# Altium integrated library Xilinx Virtex-II Pro.IntLib: 140 symbols (part 7 of 77)
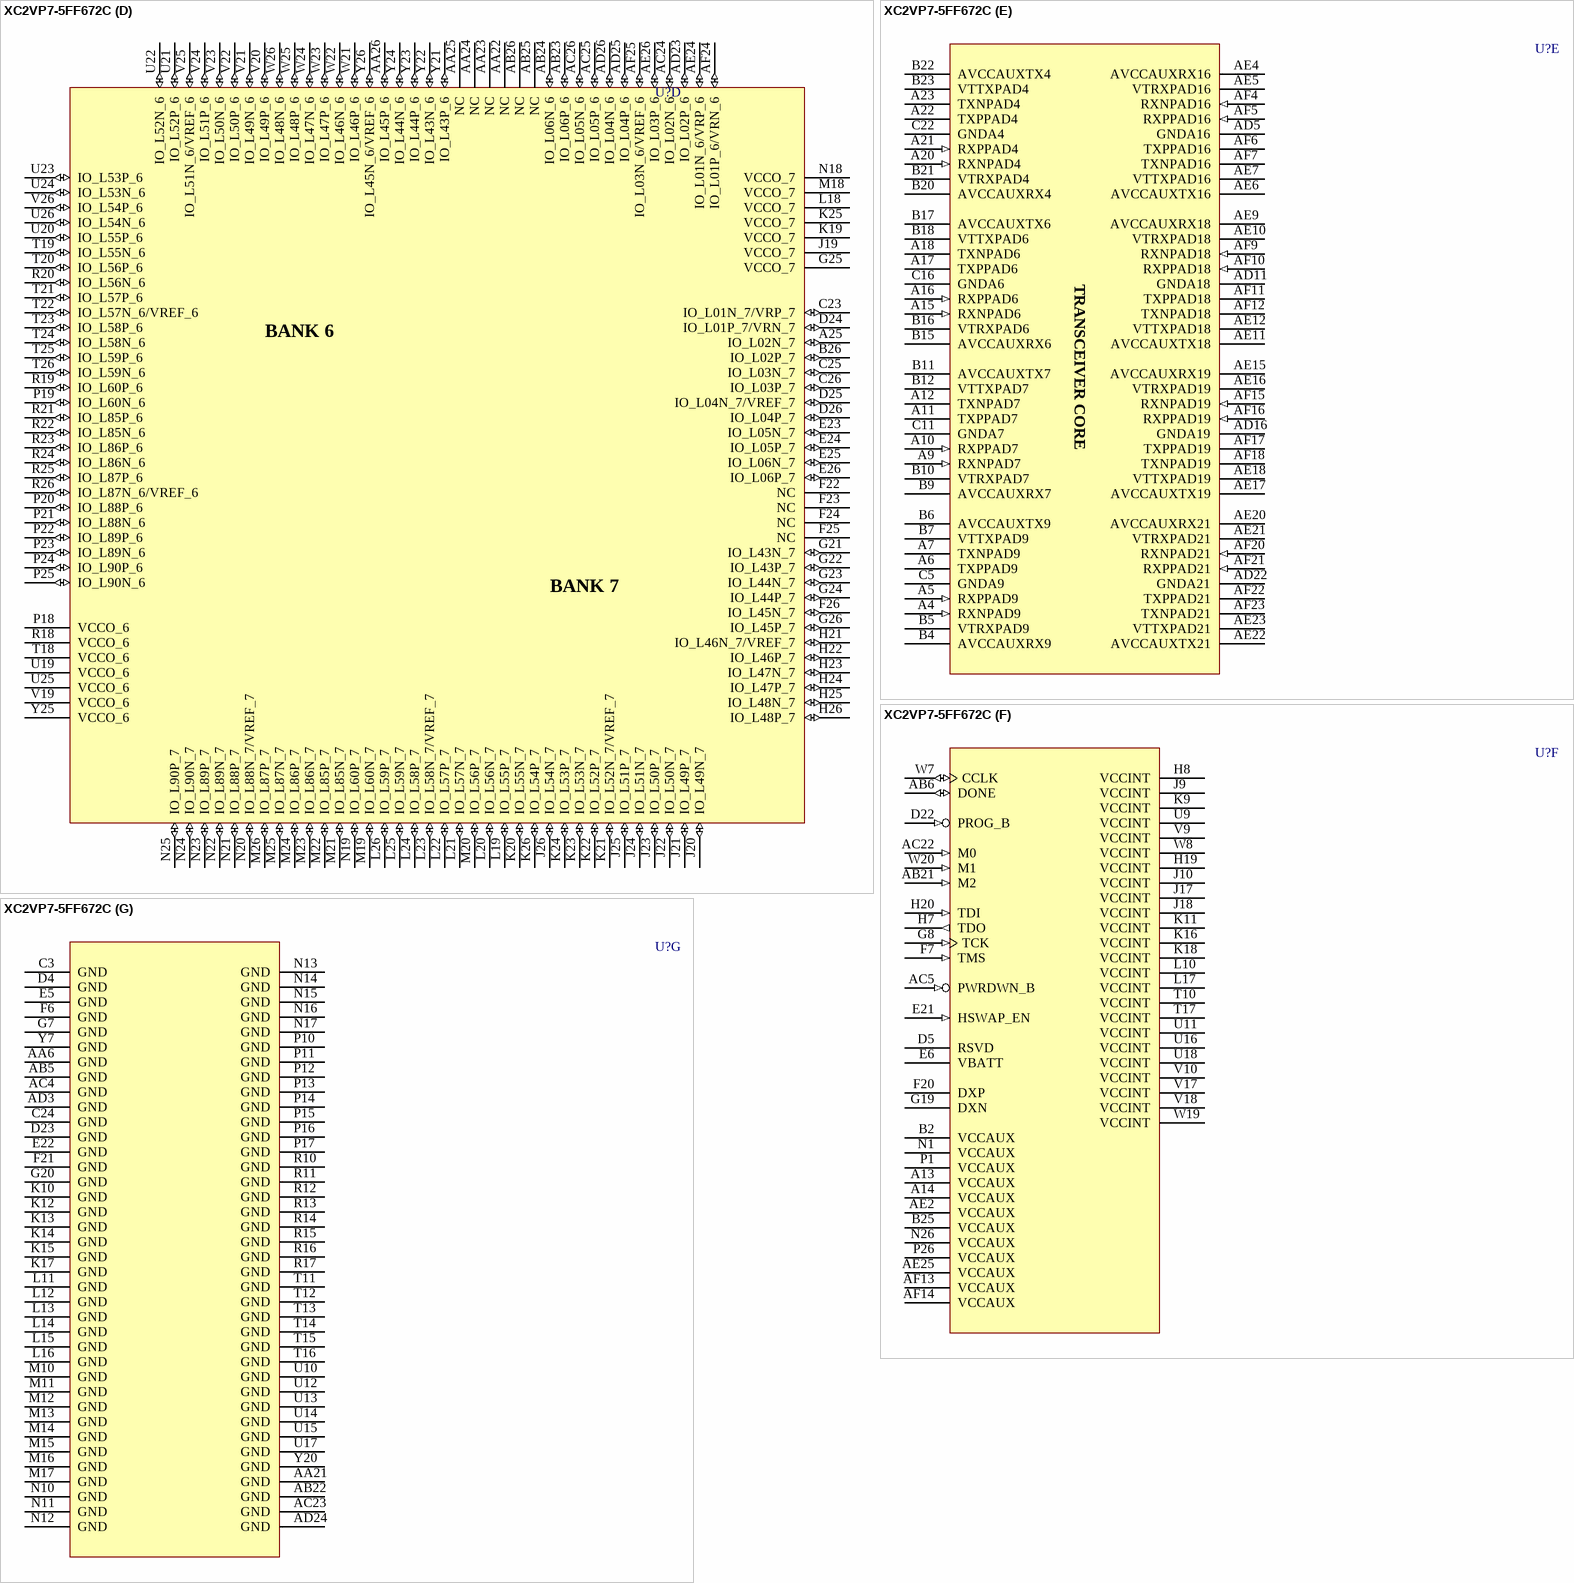
[diagram p405: symbol XC2VP7-5FF672C]

## XC2VP7-5FF672C
designator U?
Virtex-II Pro Platform FPGA, 672-Ball FFBGA, Speed Grade 5, 396 User I/Os, Commercial Grade; ManufacturerRecommends: Solder pad diameter 0.48mm SMD; PackageDocument: ver1.0, Oct-2002; User_I/Os: 396; Published: 17-Jul-2002; LatestRevisionDate: 16-Apr-2003; LatestRevisionNote: Minor layout changes, TXN/TXP Pins changed from 'Output' to 'HiZ'.  'PROG_B' pin types changed from IO to Input.; DatasheetDocument: 22-Apr-2004; PackageReference: FF672; Publisher: Altium Limited; Code_JEDEC: MS-034-AAL-1
footprint FF672 (672-Ball Flip-Chip Fine Pitch Ball Grid Array (FF672))
3D model XC2VP7-FF672 (672-Ball Flip-Chip Fine Pitch Ball Grid Array (FF672))
signal-integrity model XC2VP7_FF672 (Virtex-II Pro)
part A pins: A3 IO_L01N_1/VRP_1 (io), A8 IO_L08N_1 (io), A19 IO_L08P_0 (io), A24 IO_L01P_0/VRN_0 (io), B3 IO_L01P_1/VRN_1 (io), B8 IO_L08P_1 (io), B13 IO_L75N_1/GCLK3P (io), B14 IO_L75P_0/GCLK4S (io), B19 IO_L08N_0 (io), B24 IO_L01N_0/VRP_0 (io), C6 IO_L02N_1 (io), C7 VCCO_1 (power), C8 IO_L07N_1 (io), C9 IO_L37N_1 (io), C10 VCCO_1 (power), C12 IO_L68N_1 (io), C13 IO_L75P_1/GCLK2S (io), C14 IO_L75N_0/GCLK5P (io), C15 IO_L68P_0 (io), C17 VCCO_0 (power), C18 IO_L37P_0 (io), C19 IO_L07P_0 (io), C20 VCCO_0 (power), C21 IO_L02P_0 (io), D6 IO_L02P_1 (io), D7 IO_L03N_1/VREF_1 (io), D8 IO_L07P_1 (io), D9 IO_L37P_1 (io), D10 IO_L43N_1 (io), D11 IO_L45N_1/VREF_1 (io), D12 IO_L68P_1 (io), D13 IO_L74N_1/GCLK1P (io), D14 IO_L74P_0/GCLK6S (io), D15 IO_L68N_0 (io), D16 IO_L45P_0/VREF_0 (io), D17 IO_L43P_0 (io), D18 IO_L37N_0 (io), D19 IO_L07N_0 (io), D20 IO_L03P_0/VREF_0 (io), D21 IO_L02N_0 (io), E7 IO_L03P_1 (io), E8 IO_L06P_1 (io), E9 IO_L06N_1 (io), E10 IO_L43P_1 (io), E11 IO_L45P_1 (io), E12 IO_L67N_1 (io), E13 IO_L74P_1/GCLK0S (io), E14 IO_L74N_0/GCLK7P (io), E15 IO_L67P_0 (io), E16 IO_L45N_0 (io), E17 IO_L43N_0 (io), E18 IO_L06P_0 (io), E19 IO_L06N_0 (io), E20 IO_L03N_0 (io), F8 IO_L05_1/No_Pair (io), F9 IO_L09N_1/VREF_1 (io), F10 IO_L39P_1 (io), F11 IO_L39N_1 (io), F12 IO_L67P_1 (io), F13 IO_L73N_1 (io), F14 IO_L73P_0 (io), F15 IO_L67N_0 (io), F16 IO_L39P_0 (io), F17 IO_L39N_0 (io), F18 IO_L09P_0/VREF_0 (io), F19 IO_L05_0/No_Pair (io), G9 IO_L09P_1 (io), G10 IO_L38P_1 (io), G11 IO_L44P_1 (io), G12 IO_L44N_1 (io), G13 IO_L73P_1 (io), G14 IO_L73N_0 (io), G15 IO_L44P_0 (io), G16 IO_L44N_0 (io), G17 IO_L38N_0 (io), G18 IO_L09N_0 (io), H9 VCCO_1 (power), H10 VCCO_1 (power), H11 IO_L38N_1 (io), H12 IO_L69P_1 (io), H13 IO_L69N_1/VREF_1 (io), H14 IO_L69P_0/VREF_0 (io), H15 IO_L69N_0 (io), H16 IO_L38P_0 (io), H17 VCCO_0 (power), H18 VCCO_0 (power), J11 VCCO_1 (power), J12 VCCO_1 (power), J13 VCCO_1 (power), J14 VCCO_0 (power), J15 VCCO_0 (power), J16 VCCO_0 (power)
part B pins: A2 IO_L02N_2 (io), AA1 IO_L45P_3 (io), AA2 NC, AA3 NC, AA4 NC, AA5 NC, AB1 NC, AB2 NC, AB3 IO_L06N_3 (io), AB4 IO_L06P_3 (io), AC1 IO_L05N_3 (io), AC2 IO_L05P_3 (io), AC3 IO_L02N_3 (io), AD1 IO_L04N_3 (io), AD2 IO_L04P_3 (io), AD4 IO_L02P_3 (io), AE1 IO_L03N_3/VREF_3 (io), AE3 IO_L01N_3/VRP_3 (io), AF2 IO_L03P_3 (io), AF3 IO_L01P_3/VRN_3 (io), B1 IO_L02P_2 (io), C1 IO_L03P_2 (io), C2 IO_L03N_2 (io), C4 IO_L01N_2/VRP_2 (io), D1 IO_L04P_2 (io), D2 IO_L04N_2/VREF_2 (io), D3 IO_L01P_2/VRN_2 (io), E1 IO_L06P_2 (io), E2 IO_L06N_2 (io), E3 IO_L05P_2 (io), E4 IO_L05N_2 (io), F1 IO_L45N_2 (io), F2 NC, F3 NC, F4 NC, F5 NC, G1 IO_L45P_2 (io), G2 VCCO_2 (power), G3 IO_L44P_2 (io), G4 IO_L44N_2 (io), G5 IO_L43P_2 (io), G6 IO_L43N_2 (io), H1 IO_L48P_2 (io), H2 IO_L48N_2 (io), H3 IO_L47P_2 (io), H4 IO_L47N_2 (io), H5 IO_L46P_2 (io), H6 IO_L46N_2/VREF_2 (io), J1 IO_L54N_2 (io), J2 IO_L51P_2 (io), J3 IO_L51N_2 (io), J4 IO_L50P_2 (io), J5 IO_L50N_2 (io), J6 IO_L49P_2 (io), J7 IO_L49N_2 (io), J8 VCCO_2 (power), K1 IO_L54P_2 (io), K2 VCCO_2 (power), K3 IO_L53P_2 (io), K4 IO_L53N_2 (io), K5 IO_L52P_2 (io), K6 IO_L52N_2/VREF_2 (io), K7 IO_L55N_2 (io), K8 VCCO_2 (power), L1 IO_L59P_2 (io), L2 IO_L59N_2 (io), L3 IO_L58P_2 (io), L4 IO_L58N_2/VREF_2 (io), L5 IO_L57P_2 (io), L6 IO_L57N_2 (io), L7 IO_L56N_2 (io), L8 IO_L55P_2 (io), L9 VCCO_2 (power), M1 IO_L87P_2 (io), M2 IO_L87N_2 (io), M3 IO_L86P_2 (io), M4 IO_L86N_2 (io), M5 IO_L85P_2 (io), M6 IO_L85N_2 (io), M7 IO_L56P_2 (io), M8 IO_L60N_2 (io), M9 VCCO_2 (power), N2 IO_L90P_2 (io), N3 IO_L90N_2 (io), N4 IO_L89P_2 (io), N5 IO_L89N_2 (io), N6 IO_L88P_2 (io), N7 IO_L88N_2/VREF_2 (io), N8 IO_L60P_2 (io), N9 VCCO_2 (power), P2 IO_L90N_3 (io), P3 IO_L90P_3 (io), P4 IO_L89N_3 (io), P5 IO_L89P_3 (io), P6 IO_L88N_3 (io), P7 IO_L88P_3 (io), P8 IO_L60N_3 (io), P9 VCCO_3 (power), R1 IO_L87N_3/VREF_3 (io), R2 IO_L87P_3 (io), R3 IO_L86N_3 (io), R4 IO_L86P_3 (io), R5 IO_L85N_3 (io), R6 IO_L85P_3 (io), R7 IO_L56N_3 (io), R8 IO_L60P_3 (io), R9 VCCO_3 (power), T1 IO_L59N_3 (io), T2 IO_L59P_3 (io), T3 IO_L58N_3 (io), T4 IO_L58P_3 (io), T5 IO_L57N_3/VREF_3 (io), T6 IO_L57P_3 (io), T7 IO_L56P_3 (io), T8 IO_L55N_3 (io), T9 VCCO_3 (power), U1 IO_L54N_3 (io), U2 VCCO_3 (power), U3 IO_L53N_3 (io), U4 IO_L53P_3 (io), U5 IO_L52N_3 (io), U6 IO_L52P_3 (io), U7 IO_L55P_3 (io), U8 VCCO_3 (power), V1 IO_L54P_3 (io), V2 IO_L51N_3/VREF_3 (io), V3 IO_L51P_3 (io), V4 IO_L50N_3 (io), V5 IO_L50P_3 (io), V6 IO_L49N_3 (io), V7 IO_L49P_3 (io), V8 VCCO_3 (power), W1 IO_L48N_3 (io), W2 IO_L48P_3 (io), W3 IO_L47N_3 (io), W4 IO_L47P_3 (io), W5 IO_L46N_3 (io), W6 IO_L46P_3 (io), Y1 IO_L45N_3/VREF_3 (io), Y2 VCCO_3 (power), Y3 IO_L44N_3 (io), Y4 IO_L44P_3 (io), Y5 IO_L43N_3 (io), Y6 IO_L43P_3 (io)
part C pins: AA7 IO_L03N_4/D2 (io), AA8 IO_L03P_4/D3 (io), AA9 IO_L09P_4/VREF_4 (io), AA10 IO_L39N_4 (io), AA11 IO_L39P_4 (io), AA12 IO_L67N_4 (io), AA13 IO_L73P_4 (io), AA14 IO_L73N_5 (io), AA15 IO_L67P_5 (io), AA16 IO_L39N_5 (io), AA17 IO_L39P_5 (io), AA18 IO_L09N_5/VREF_5 (io), AA19 IO_L03N_5/D4 (io), AA20 IO_L03P_5/D5 (io), AB7 IO_L02N_4/D0 (io), AB8 IO_L06N_4/VRP_4 (io), AB9 IO_L06P_4/VRN_4 (io), AB10 IO_L43N_4 (io), AB11 IO_L45N_4 (io), AB12 IO_L67P_4 (io), AB13 IO_L74N_4/GCLK3S (io), AB14 IO_L74P_5/GCLK4P (io), AB15 IO_L67N_5 (io), AB16 IO_L45P_5 (io), AB17 IO_L43P_5 (io), AB18 IO_L06N_5/VRP_5 (io), AB19 IO_L06P_5/VRN_5 (io), AB20 IO_L02P_5/D7 (io), AC6 IO_L01N_4/DOUT (io), AC7 IO_L02P_4/D1 (io), AC8 IO_L07N_4 (io), AC9 IO_L37N_4 (io), AC10 IO_L43P_4 (io), AC11 IO_L45P_4/VREF_4 (io), AC12 IO_L68N_4 (io), AC13 IO_L74P_4/GCLK2P (io), AC14 IO_L74N_5/GCLK5S (io), AC15 IO_L68P_5 (io), AC16 IO_L45N_5/VREF_5 (io), AC17 IO_L43N_5 (io), AC18 IO_L37P_5 (io), AC19 IO_L07P_5 (io), AC20 IO_L02N_5/D6 (io), AC21 IO_L01P_5/CS_B (io), AD6 IO_L01P_4/INIT_B (io), AD7 VCCO_4 (power), AD8 IO_L07P_4/VREF_4 (io), AD9 IO_L37P_4 (io), AD10 VCCO_4 (power), AD12 IO_L68P_4 (io), AD13 IO_L75N_4/GCLK1S (io), AD14 IO_L75P_5/GCLK6P (io), AD15 IO_L68N_5 (io), AD17 VCCO_5 (power), AD18 IO_L37N_5 (io), AD19 IO_L07N_5/VREF_5 (io), AD20 VCCO_5 (power), AD21 IO_L01N_5/RDWR_B (io), AE8 IO_L08N_4 (io), AE13 IO_L75P_4/GCLK0P (io), AE14 IO_L75N_5/GCLK7S (io), AE19 IO_L08P_5 (io), AF8 IO_L08P_4 (io), AF19 IO_L08N_5 (io), V11 VCCO_4 (power), V12 VCCO_4 (power), V13 VCCO_4 (power), V14 VCCO_5 (power), V15 VCCO_5 (power), V16 VCCO_5 (power), W9 VCCO_4 (power), W10 VCCO_4 (power), W11 IO_L38P_4 (io), W12 IO_L69N_4 (io), W13 IO_L69P_4/VREF_4 (io), W14 IO_L69N_5/VREF_5 (io), W15 IO_L69P_5 (io), W16 IO_L38N_5 (io), W17 VCCO_5 (power), W18 VCCO_5 (power), Y8 IO_L05_4/No_Pair (io), Y9 IO_L09N_4 (io), Y10 IO_L38N_4 (io), Y11 IO_L44N_4 (io), Y12 IO_L44P_4 (io), Y13 IO_L73N_4 (io), Y14 IO_L73P_5 (io), Y15 IO_L44N_5 (io), Y16 IO_L44P_5 (io), Y17 IO_L38P_5 (io), Y18 IO_L09P_5 (io), Y19 IO_L05_5/No_Pair (io)
part D pins: A25 IO_L02N_7 (io), AA22 NC, AA23 NC, AA24 NC, AA25 NC, AA26 IO_L45P_6 (io), AB23 IO_L06P_6 (io), AB24 IO_L06N_6 (io), AB25 NC, AB26 NC, AC24 IO_L02N_6 (io), AC25 IO_L05P_6 (io), AC26 IO_L05N_6 (io), AD23 IO_L02P_6 (io), AD25 IO_L04P_6 (io), AD26 IO_L04N_6 (io), AE24 IO_L01N_6/VRP_6 (io), AE26 IO_L03P_6 (io), AF24 IO_L01P_6/VRN_6 (io), AF25 IO_L03N_6/VREF_6 (io), B26 IO_L02P_7 (io), C23 IO_L01N_7/VRP_7 (io), C25 IO_L03N_7 (io), C26 IO_L03P_7 (io), D24 IO_L01P_7/VRN_7 (io), D25 IO_L04N_7/VREF_7 (io), D26 IO_L04P_7 (io), E23 IO_L05N_7 (io), E24 IO_L05P_7 (io), E25 IO_L06N_7 (io), E26 IO_L06P_7 (io), F22 NC, F23 NC, F24 NC, F25 NC, F26 IO_L45N_7 (io), G21 IO_L43N_7 (io), G22 IO_L43P_7 (io), G23 IO_L44N_7 (io), G24 IO_L44P_7 (io), G25 VCCO_7 (power), G26 IO_L45P_7 (io), H21 IO_L46N_7/VREF_7 (io), H22 IO_L46P_7 (io), H23 IO_L47N_7 (io), H24 IO_L47P_7 (io), H25 IO_L48N_7 (io), H26 IO_L48P_7 (io), J19 VCCO_7 (power), J20 IO_L49N_7 (io), J21 IO_L49P_7 (io), J22 IO_L50N_7 (io), J23 IO_L50P_7 (io), J24 IO_L51N_7 (io), J25 IO_L51P_7 (io), J26 IO_L54N_7 (io), K19 VCCO_7 (power), K20 IO_L55N_7 (io), K21 IO_L52N_7/VREF_7 (io), K22 IO_L52P_7 (io), K23 IO_L53N_7 (io), K24 IO_L53P_7 (io), K25 VCCO_7 (power), K26 IO_L54P_7 (io), L18 VCCO_7 (power), L19 IO_L55P_7 (io), L20 IO_L56N_7 (io), L21 IO_L57N_7 (io), L22 IO_L57P_7 (io), L23 IO_L58N_7/VREF_7 (io), L24 IO_L58P_7 (io), L25 IO_L59N_7 (io), L26 IO_L59P_7 (io), M18 VCCO_7 (power), M19 IO_L60N_7 (io), M20 IO_L56P_7 (io), M21 IO_L85N_7 (io), M22 IO_L85P_7 (io), M23 IO_L86N_7 (io), M24 IO_L86P_7 (io), M25 IO_L87N_7 (io), M26 IO_L87P_7 (io), N18 VCCO_7 (power), N19 IO_L60P_7 (io), N20 IO_L88N_7/VREF_7 (io), N21 IO_L88P_7 (io), N22 IO_L89N_7 (io), N23 IO_L89P_7 (io), N24 IO_L90N_7 (io), N25 IO_L90P_7 (io), P18 VCCO_6 (power), P19 IO_L60N_6 (io), P20 IO_L88P_6 (io), P21 IO_L88N_6 (io), P22 IO_L89P_6 (io), P23 IO_L89N_6 (io), P24 IO_L90P_6 (io), P25 IO_L90N_6 (io), R18 VCCO_6 (power), R19 IO_L60P_6 (io), R20 IO_L56N_6 (io), R21 IO_L85P_6 (io), R22 IO_L85N_6 (io), R23 IO_L86P_6 (io), R24 IO_L86N_6 (io), R25 IO_L87P_6 (io), R26 IO_L87N_6/VREF_6 (io), T18 VCCO_6 (power), T19 IO_L55N_6 (io), T20 IO_L56P_6 (io), T21 IO_L57P_6 (io), T22 IO_L57N_6/VREF_6 (io), T23 IO_L58P_6 (io), T24 IO_L58N_6 (io), T25 IO_L59P_6 (io), T26 IO_L59N_6 (io), U19 VCCO_6 (power), U20 IO_L55P_6 (io), U21 IO_L52P_6 (io), U22 IO_L52N_6 (io), U23 IO_L53P_6 (io), U24 IO_L53N_6 (io), U25 VCCO_6 (power), U26 IO_L54N_6 (io), V19 VCCO_6 (power), V20 IO_L49P_6 (io), V21 IO_L49N_6 (io), V22 IO_L50P_6 (io), V23 IO_L50N_6 (io), V24 IO_L51P_6 (io), V25 IO_L51N_6/VREF_6 (io), V26 IO_L54P_6 (io), W21 IO_L46P_6 (io), W22 IO_L46N_6 (io), W23 IO_L47P_6 (io), W24 IO_L47N_6 (io), W25 IO_L48P_6 (io), W26 IO_L48N_6 (io), Y21 IO_L43P_6 (io), Y22 IO_L43N_6 (io), Y23 IO_L44P_6 (io), Y24 IO_L44N_6 (io), Y25 VCCO_6 (power), Y26 IO_L45N_6/VREF_6 (io)
part E pins: A4 RXNPAD9 (in), A5 RXPPAD9 (in), A6 TXPPAD9 (hiz), A7 TXNPAD9 (hiz), A9 RXNPAD7 (in), A10 RXPPAD7 (in), A11 TXPPAD7 (hiz), A12 TXNPAD7 (hiz), A15 RXNPAD6 (in), A16 RXPPAD6 (in), A17 TXPPAD6 (hiz), A18 TXNPAD6 (hiz), A20 RXNPAD4 (in), A21 RXPPAD4 (in), A22 TXPPAD4 (hiz), A23 TXNPAD4 (hiz), AD5 GNDA16 (power), AD11 GNDA18 (power), AD16 GNDA19 (power), AD22 GNDA21 (power), AE4 AVCCAUXRX16 (power), AE5 VTRXPAD16 (power), AE6 AVCCAUXTX16 (power), AE7 VTTXPAD16 (power), AE9 AVCCAUXRX18 (power), AE10 VTRXPAD18 (power), AE11 AVCCAUXTX18 (power), AE12 VTTXPAD18 (power), AE15 AVCCAUXRX19 (power), AE16 VTRXPAD19 (power), AE17 AVCCAUXTX19 (power), AE18 VTTXPAD19 (power), AE20 AVCCAUXRX21 (power), AE21 VTRXPAD21 (power), AE22 AVCCAUXTX21 (power), AE23 VTTXPAD21 (power), AF4 RXNPAD16 (in), AF5 RXPPAD16 (in), AF6 TXPPAD16 (hiz), AF7 TXNPAD16 (hiz), AF9 RXNPAD18 (in), AF10 RXPPAD18 (in), AF11 TXPPAD18 (hiz), AF12 TXNPAD18 (hiz), AF15 RXNPAD19 (in), AF16 RXPPAD19 (in), AF17 TXPPAD19 (hiz), AF18 TXNPAD19 (hiz), AF20 RXNPAD21 (in), AF21 RXPPAD21 (in), AF22 TXPPAD21 (hiz), AF23 TXNPAD21 (hiz), B4 AVCCAUXRX9 (power), B5 VTRXPAD9 (power), B6 AVCCAUXTX9 (power), B7 VTTXPAD9 (power), B9 AVCCAUXRX7 (power), B10 VTRXPAD7 (power), B11 AVCCAUXTX7 (power), B12 VTTXPAD7 (power), B15 AVCCAUXRX6 (power), B16 VTRXPAD6 (power), B17 AVCCAUXTX6 (power), B18 VTTXPAD6 (power), B20 AVCCAUXRX4 (power), B21 VTRXPAD4 (power), B22 AVCCAUXTX4 (power), B23 VTTXPAD4 (power), C5 GNDA9 (power), C11 GNDA7 (power), C16 GNDA6 (power), C22 GNDA4 (power)
part F pins: A13 VCCAUX (power), A14 VCCAUX (power), AB6 DONE (io), AB21 M2 (in), AC5 PWRDWN_B (in), AC22 M0 (in), AE2 VCCAUX (power), AE25 VCCAUX (power), AF13 VCCAUX (power), AF14 VCCAUX (power), B2 VCCAUX (power), B25 VCCAUX (power), D5 RSVD, D22 PROG_B (in), E6 VBATT (power), E21 HSWAP_EN (in), F7 TMS (in), F20 DXP, G8 TCK (in), G19 DXN, H7 TDO (out), H8 VCCINT (power), H19 VCCINT (power), H20 TDI (in), J9 VCCINT (power), J10 VCCINT (power), J17 VCCINT (power), J18 VCCINT (power), K9 VCCINT (power), K11 VCCINT (power), K16 VCCINT (power), K18 VCCINT (power), L10 VCCINT (power), L17 VCCINT (power), N1 VCCAUX (power), N26 VCCAUX (power), P1 VCCAUX (power), P26 VCCAUX (power), T10 VCCINT (power), T17 VCCINT (power), U9 VCCINT (power), U11 VCCINT (power), U16 VCCINT (power), U18 VCCINT (power), V9 VCCINT (power), V10 VCCINT (power), V17 VCCINT (power), V18 VCCINT (power), W7 CCLK (io), W8 VCCINT (power), W19 VCCINT (power), W20 M1 (in)
part G pins: AA6 GND (power), AA21 GND (power), AB5 GND (power), AB22 GND (power), AC4 GND (power), AC23 GND (power), AD3 GND (power), AD24 GND (power), C3 GND (power), C24 GND (power), D4 GND (power), D23 GND (power), E5 GND (power), E22 GND (power), F6 GND (power), F21 GND (power), G7 GND (power), G20 GND (power), K10 GND (power), K12 GND (power), K13 GND (power), K14 GND (power), K15 GND (power), K17 GND (power), L11 GND (power), L12 GND (power), L13 GND (power), L14 GND (power), L15 GND (power), L16 GND (power), M10 GND (power), M11 GND (power), M12 GND (power), M13 GND (power), M14 GND (power), M15 GND (power), M16 GND (power), M17 GND (power), N10 GND (power), N11 GND (power), N12 GND (power), N13 GND (power), N14 GND (power), N15 GND (power), N16 GND (power), N17 GND (power), P10 GND (power), P11 GND (power), P12 GND (power), P13 GND (power), P14 GND (power), P15 GND (power), P16 GND (power), P17 GND (power), R10 GND (power), R11 GND (power), R12 GND (power), R13 GND (power), R14 GND (power), R15 GND (power), R16 GND (power), R17 GND (power), T11 GND (power), T12 GND (power), T13 GND (power), T14 GND (power), T15 GND (power), T16 GND (power), U10 GND (power), U12 GND (power), U13 GND (power), U14 GND (power), U15 GND (power), U17 GND (power), Y7 GND (power), Y20 GND (power)
part A text: BANK 0; BANK 1
part B text: BANK 2; BANK 3
part C text: BANK 4; BANK 5
part D text: BANK 6; BANK 7
part E text: TRANSCEIVER CORE

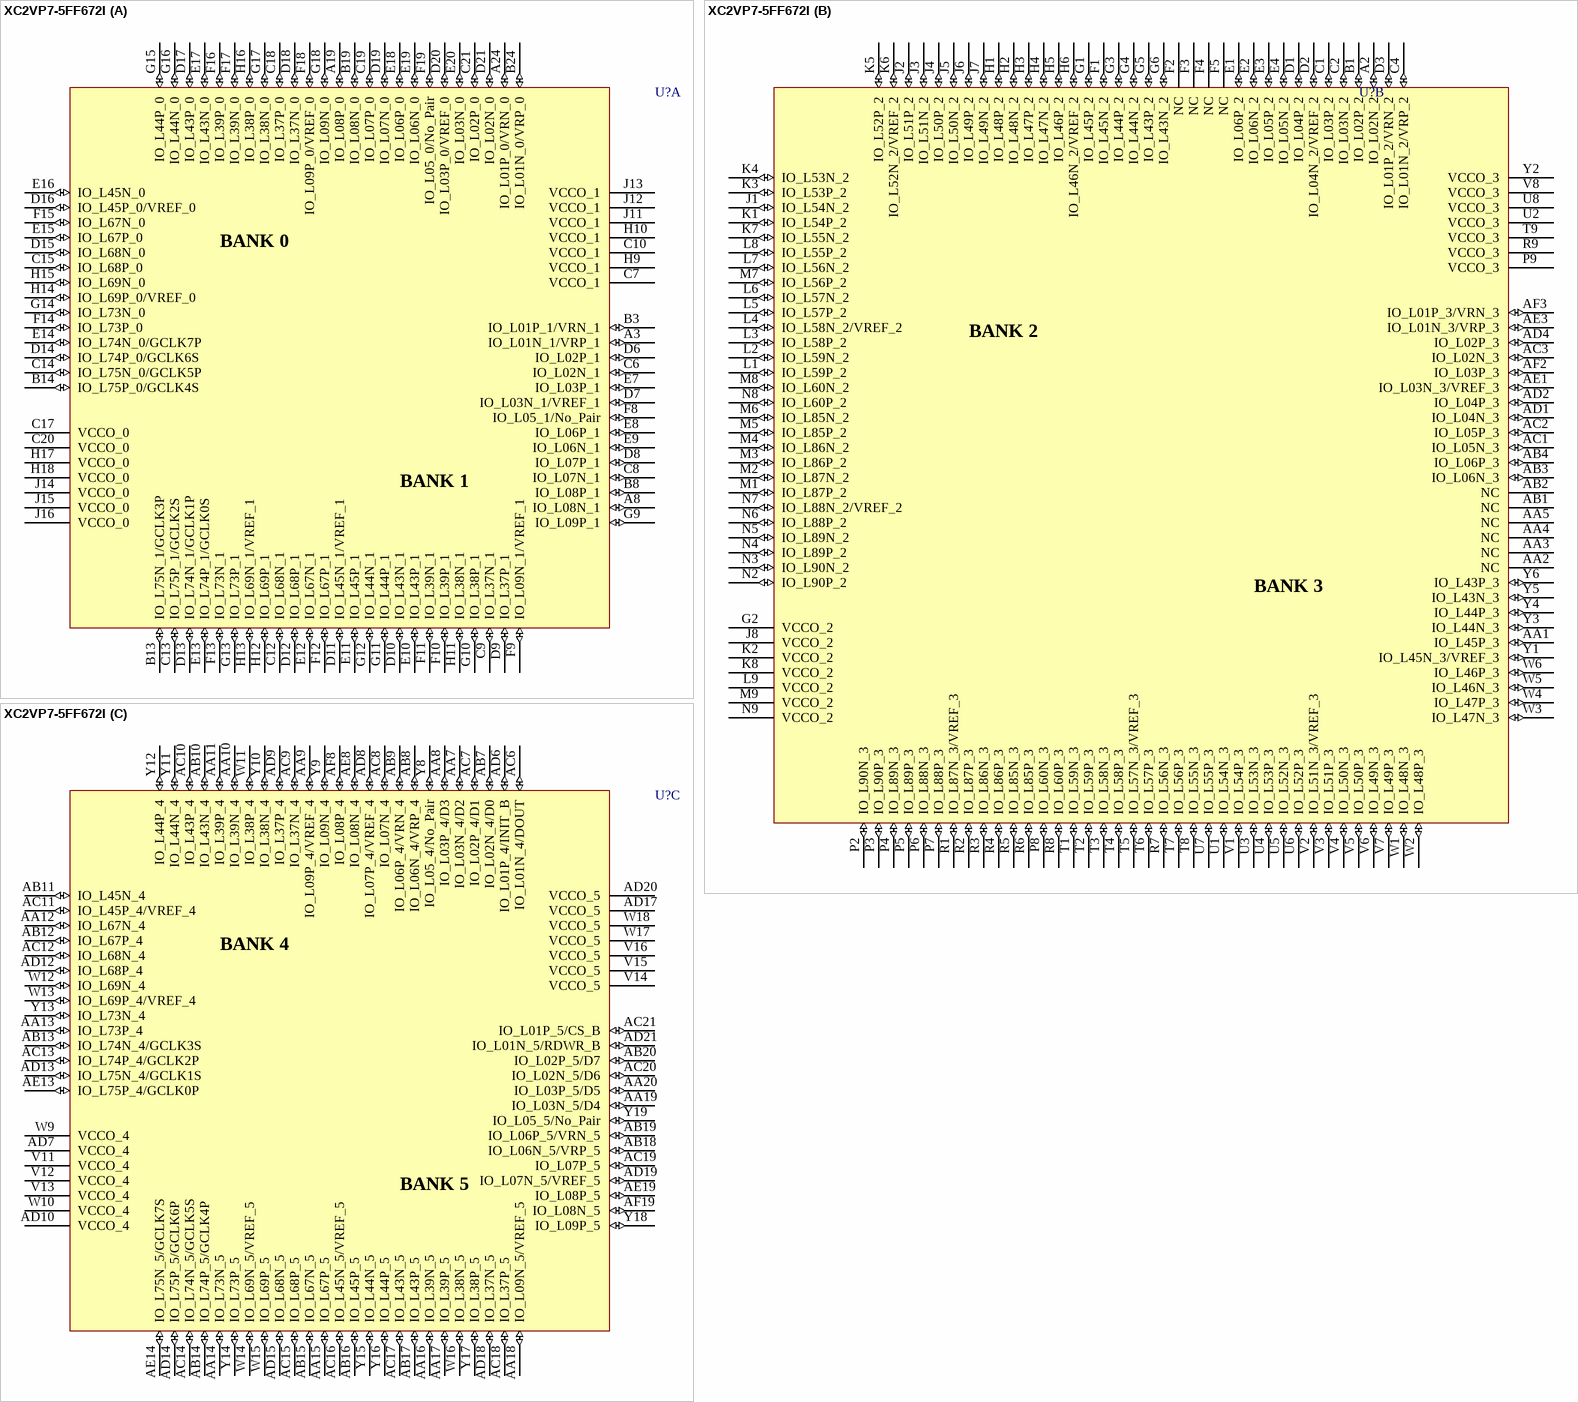
[diagram p62: symbol XC2VP7-5FF672I]

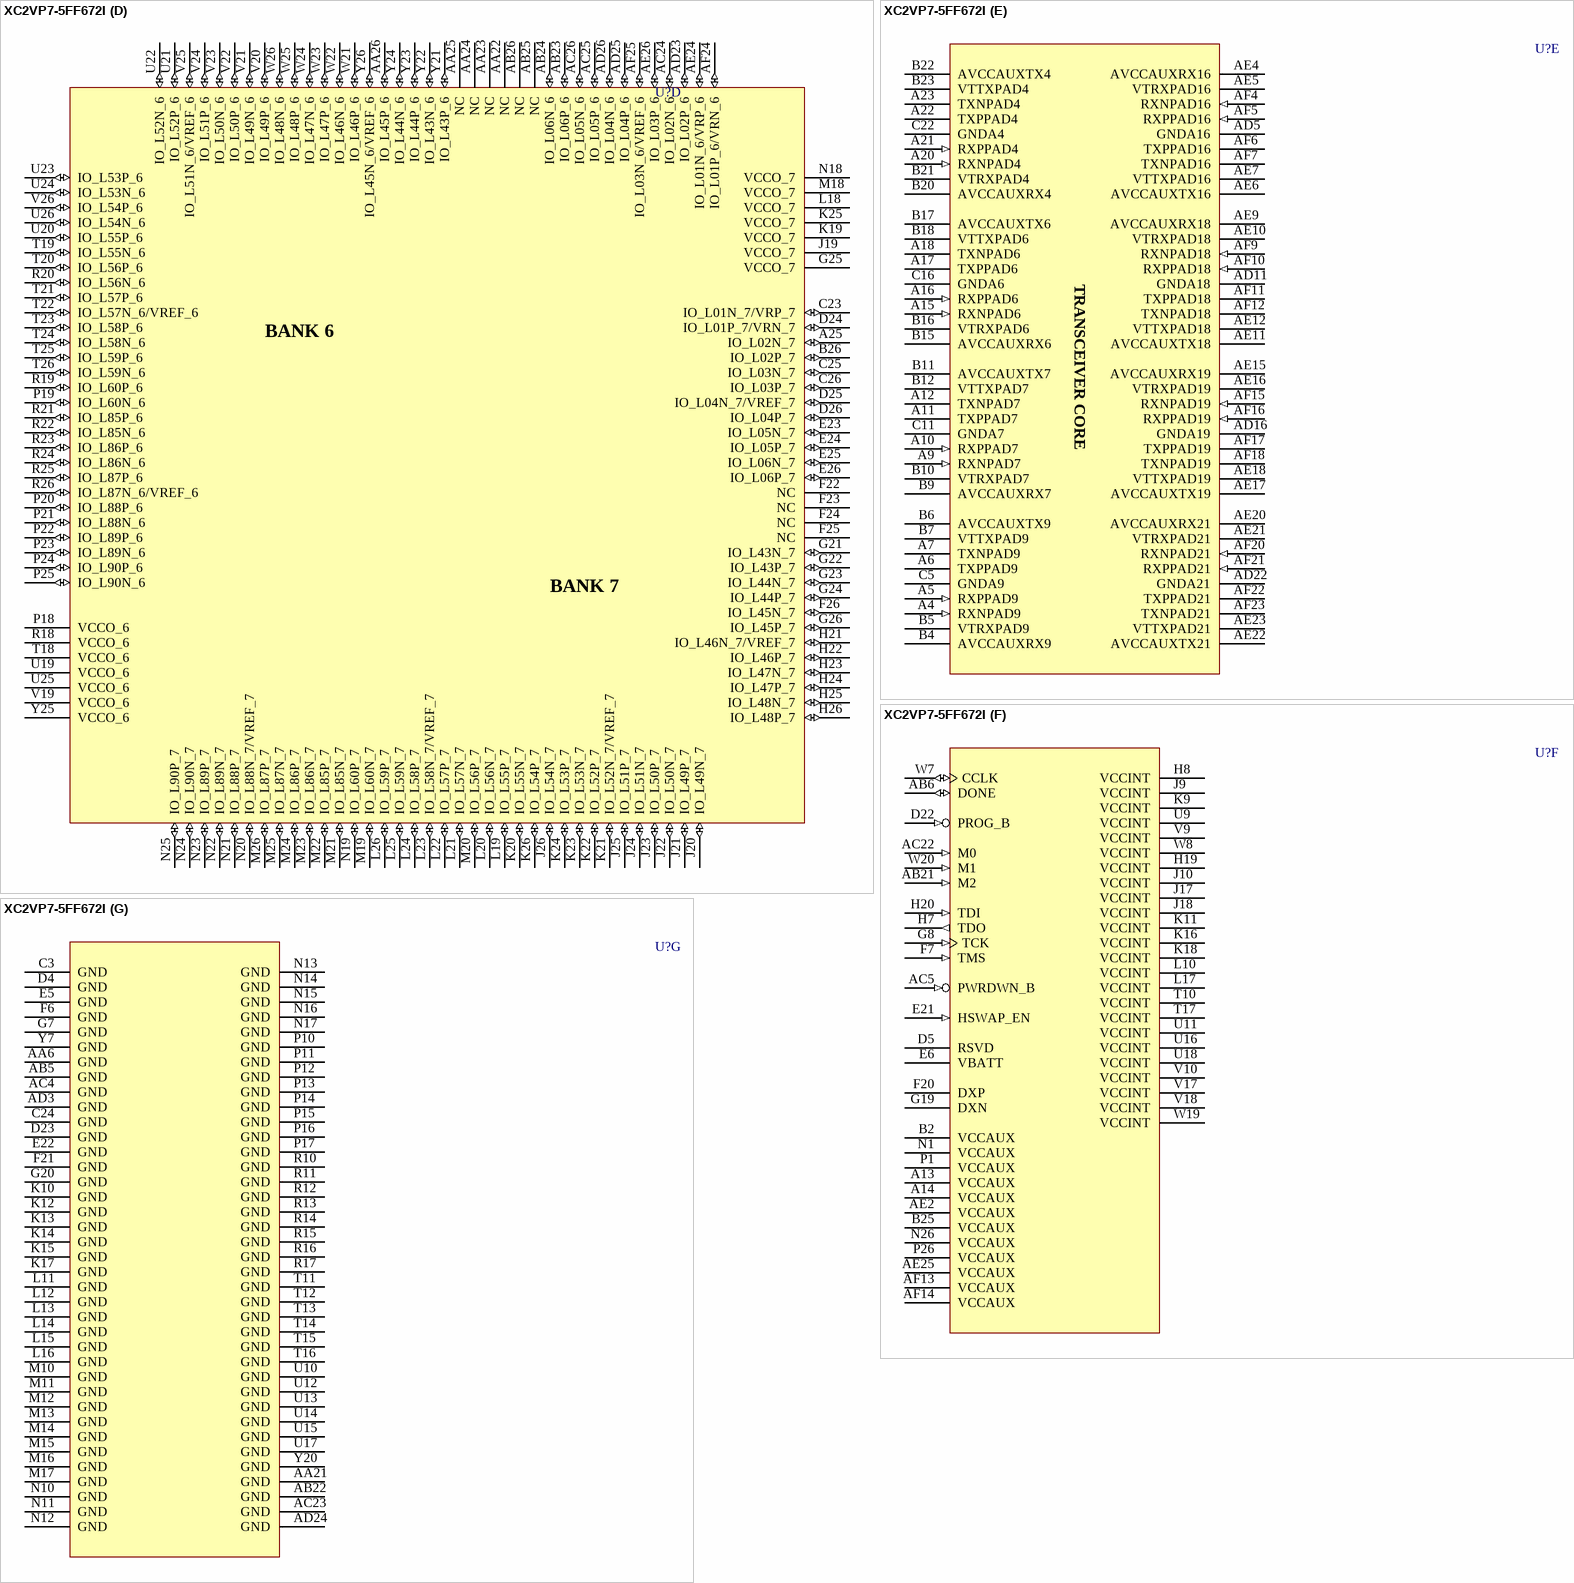
[diagram p63: symbol XC2VP7-5FF672I]

## XC2VP7-5FF672I
designator U?
Virtex-II Pro Platform FPGA, 672-Ball FFBGA, Speed Grade 5, 396 User I/Os, Industrial Grade; ManufacturerRecommends: Solder pad diameter 0.48mm SMD; PackageDocument: ver1.0, Oct-2002; User_I/Os: 396; Published: 17-Jul-2002; LatestRevisionDate: 16-Apr-2003; LatestRevisionNote: Minor layout changes, TXN/TXP Pins changed from 'Output' to 'HiZ'.  'PROG_B' pin types changed from IO to Input.; DatasheetDocument: 22-Apr-2004; PackageReference: FF672; Publisher: Altium Limited; Code_JEDEC: MS-034-AAL-1
footprint FF672 (672-Ball Flip-Chip Fine Pitch Ball Grid Array (FF672))
3D model XC2VP7-FF672 (672-Ball Flip-Chip Fine Pitch Ball Grid Array (FF672))
signal-integrity model XC2VP7_FF672 (Virtex-II Pro)
part A pins: A3 IO_L01N_1/VRP_1 (io), A8 IO_L08N_1 (io), A19 IO_L08P_0 (io), A24 IO_L01P_0/VRN_0 (io), B3 IO_L01P_1/VRN_1 (io), B8 IO_L08P_1 (io), B13 IO_L75N_1/GCLK3P (io), B14 IO_L75P_0/GCLK4S (io), B19 IO_L08N_0 (io), B24 IO_L01N_0/VRP_0 (io), C6 IO_L02N_1 (io), C7 VCCO_1 (power), C8 IO_L07N_1 (io), C9 IO_L37N_1 (io), C10 VCCO_1 (power), C12 IO_L68N_1 (io), C13 IO_L75P_1/GCLK2S (io), C14 IO_L75N_0/GCLK5P (io), C15 IO_L68P_0 (io), C17 VCCO_0 (power), C18 IO_L37P_0 (io), C19 IO_L07P_0 (io), C20 VCCO_0 (power), C21 IO_L02P_0 (io), D6 IO_L02P_1 (io), D7 IO_L03N_1/VREF_1 (io), D8 IO_L07P_1 (io), D9 IO_L37P_1 (io), D10 IO_L43N_1 (io), D11 IO_L45N_1/VREF_1 (io), D12 IO_L68P_1 (io), D13 IO_L74N_1/GCLK1P (io), D14 IO_L74P_0/GCLK6S (io), D15 IO_L68N_0 (io), D16 IO_L45P_0/VREF_0 (io), D17 IO_L43P_0 (io), D18 IO_L37N_0 (io), D19 IO_L07N_0 (io), D20 IO_L03P_0/VREF_0 (io), D21 IO_L02N_0 (io), E7 IO_L03P_1 (io), E8 IO_L06P_1 (io), E9 IO_L06N_1 (io), E10 IO_L43P_1 (io), E11 IO_L45P_1 (io), E12 IO_L67N_1 (io), E13 IO_L74P_1/GCLK0S (io), E14 IO_L74N_0/GCLK7P (io), E15 IO_L67P_0 (io), E16 IO_L45N_0 (io), E17 IO_L43N_0 (io), E18 IO_L06P_0 (io), E19 IO_L06N_0 (io), E20 IO_L03N_0 (io), F8 IO_L05_1/No_Pair (io), F9 IO_L09N_1/VREF_1 (io), F10 IO_L39P_1 (io), F11 IO_L39N_1 (io), F12 IO_L67P_1 (io), F13 IO_L73N_1 (io), F14 IO_L73P_0 (io), F15 IO_L67N_0 (io), F16 IO_L39P_0 (io), F17 IO_L39N_0 (io), F18 IO_L09P_0/VREF_0 (io), F19 IO_L05_0/No_Pair (io), G9 IO_L09P_1 (io), G10 IO_L38P_1 (io), G11 IO_L44P_1 (io), G12 IO_L44N_1 (io), G13 IO_L73P_1 (io), G14 IO_L73N_0 (io), G15 IO_L44P_0 (io), G16 IO_L44N_0 (io), G17 IO_L38N_0 (io), G18 IO_L09N_0 (io), H9 VCCO_1 (power), H10 VCCO_1 (power), H11 IO_L38N_1 (io), H12 IO_L69P_1 (io), H13 IO_L69N_1/VREF_1 (io), H14 IO_L69P_0/VREF_0 (io), H15 IO_L69N_0 (io), H16 IO_L38P_0 (io), H17 VCCO_0 (power), H18 VCCO_0 (power), J11 VCCO_1 (power), J12 VCCO_1 (power), J13 VCCO_1 (power), J14 VCCO_0 (power), J15 VCCO_0 (power), J16 VCCO_0 (power)
part B pins: A2 IO_L02N_2 (io), AA1 IO_L45P_3 (io), AA2 NC, AA3 NC, AA4 NC, AA5 NC, AB1 NC, AB2 NC, AB3 IO_L06N_3 (io), AB4 IO_L06P_3 (io), AC1 IO_L05N_3 (io), AC2 IO_L05P_3 (io), AC3 IO_L02N_3 (io), AD1 IO_L04N_3 (io), AD2 IO_L04P_3 (io), AD4 IO_L02P_3 (io), AE1 IO_L03N_3/VREF_3 (io), AE3 IO_L01N_3/VRP_3 (io), AF2 IO_L03P_3 (io), AF3 IO_L01P_3/VRN_3 (io), B1 IO_L02P_2 (io), C1 IO_L03P_2 (io), C2 IO_L03N_2 (io), C4 IO_L01N_2/VRP_2 (io), D1 IO_L04P_2 (io), D2 IO_L04N_2/VREF_2 (io), D3 IO_L01P_2/VRN_2 (io), E1 IO_L06P_2 (io), E2 IO_L06N_2 (io), E3 IO_L05P_2 (io), E4 IO_L05N_2 (io), F1 IO_L45N_2 (io), F2 NC, F3 NC, F4 NC, F5 NC, G1 IO_L45P_2 (io), G2 VCCO_2 (power), G3 IO_L44P_2 (io), G4 IO_L44N_2 (io), G5 IO_L43P_2 (io), G6 IO_L43N_2 (io), H1 IO_L48P_2 (io), H2 IO_L48N_2 (io), H3 IO_L47P_2 (io), H4 IO_L47N_2 (io), H5 IO_L46P_2 (io), H6 IO_L46N_2/VREF_2 (io), J1 IO_L54N_2 (io), J2 IO_L51P_2 (io), J3 IO_L51N_2 (io), J4 IO_L50P_2 (io), J5 IO_L50N_2 (io), J6 IO_L49P_2 (io), J7 IO_L49N_2 (io), J8 VCCO_2 (power), K1 IO_L54P_2 (io), K2 VCCO_2 (power), K3 IO_L53P_2 (io), K4 IO_L53N_2 (io), K5 IO_L52P_2 (io), K6 IO_L52N_2/VREF_2 (io), K7 IO_L55N_2 (io), K8 VCCO_2 (power), L1 IO_L59P_2 (io), L2 IO_L59N_2 (io), L3 IO_L58P_2 (io), L4 IO_L58N_2/VREF_2 (io), L5 IO_L57P_2 (io), L6 IO_L57N_2 (io), L7 IO_L56N_2 (io), L8 IO_L55P_2 (io), L9 VCCO_2 (power), M1 IO_L87P_2 (io), M2 IO_L87N_2 (io), M3 IO_L86P_2 (io), M4 IO_L86N_2 (io), M5 IO_L85P_2 (io), M6 IO_L85N_2 (io), M7 IO_L56P_2 (io), M8 IO_L60N_2 (io), M9 VCCO_2 (power), N2 IO_L90P_2 (io), N3 IO_L90N_2 (io), N4 IO_L89P_2 (io), N5 IO_L89N_2 (io), N6 IO_L88P_2 (io), N7 IO_L88N_2/VREF_2 (io), N8 IO_L60P_2 (io), N9 VCCO_2 (power), P2 IO_L90N_3 (io), P3 IO_L90P_3 (io), P4 IO_L89N_3 (io), P5 IO_L89P_3 (io), P6 IO_L88N_3 (io), P7 IO_L88P_3 (io), P8 IO_L60N_3 (io), P9 VCCO_3 (power), R1 IO_L87N_3/VREF_3 (io), R2 IO_L87P_3 (io), R3 IO_L86N_3 (io), R4 IO_L86P_3 (io), R5 IO_L85N_3 (io), R6 IO_L85P_3 (io), R7 IO_L56N_3 (io), R8 IO_L60P_3 (io), R9 VCCO_3 (power), T1 IO_L59N_3 (io), T2 IO_L59P_3 (io), T3 IO_L58N_3 (io), T4 IO_L58P_3 (io), T5 IO_L57N_3/VREF_3 (io), T6 IO_L57P_3 (io), T7 IO_L56P_3 (io), T8 IO_L55N_3 (io), T9 VCCO_3 (power), U1 IO_L54N_3 (io), U2 VCCO_3 (power), U3 IO_L53N_3 (io), U4 IO_L53P_3 (io), U5 IO_L52N_3 (io), U6 IO_L52P_3 (io), U7 IO_L55P_3 (io), U8 VCCO_3 (power), V1 IO_L54P_3 (io), V2 IO_L51N_3/VREF_3 (io), V3 IO_L51P_3 (io), V4 IO_L50N_3 (io), V5 IO_L50P_3 (io), V6 IO_L49N_3 (io), V7 IO_L49P_3 (io), V8 VCCO_3 (power), W1 IO_L48N_3 (io), W2 IO_L48P_3 (io), W3 IO_L47N_3 (io), W4 IO_L47P_3 (io), W5 IO_L46N_3 (io), W6 IO_L46P_3 (io), Y1 IO_L45N_3/VREF_3 (io), Y2 VCCO_3 (power), Y3 IO_L44N_3 (io), Y4 IO_L44P_3 (io), Y5 IO_L43N_3 (io), Y6 IO_L43P_3 (io)
part C pins: AA7 IO_L03N_4/D2 (io), AA8 IO_L03P_4/D3 (io), AA9 IO_L09P_4/VREF_4 (io), AA10 IO_L39N_4 (io), AA11 IO_L39P_4 (io), AA12 IO_L67N_4 (io), AA13 IO_L73P_4 (io), AA14 IO_L73N_5 (io), AA15 IO_L67P_5 (io), AA16 IO_L39N_5 (io), AA17 IO_L39P_5 (io), AA18 IO_L09N_5/VREF_5 (io), AA19 IO_L03N_5/D4 (io), AA20 IO_L03P_5/D5 (io), AB7 IO_L02N_4/D0 (io), AB8 IO_L06N_4/VRP_4 (io), AB9 IO_L06P_4/VRN_4 (io), AB10 IO_L43N_4 (io), AB11 IO_L45N_4 (io), AB12 IO_L67P_4 (io), AB13 IO_L74N_4/GCLK3S (io), AB14 IO_L74P_5/GCLK4P (io), AB15 IO_L67N_5 (io), AB16 IO_L45P_5 (io), AB17 IO_L43P_5 (io), AB18 IO_L06N_5/VRP_5 (io), AB19 IO_L06P_5/VRN_5 (io), AB20 IO_L02P_5/D7 (io), AC6 IO_L01N_4/DOUT (io), AC7 IO_L02P_4/D1 (io), AC8 IO_L07N_4 (io), AC9 IO_L37N_4 (io), AC10 IO_L43P_4 (io), AC11 IO_L45P_4/VREF_4 (io), AC12 IO_L68N_4 (io), AC13 IO_L74P_4/GCLK2P (io), AC14 IO_L74N_5/GCLK5S (io), AC15 IO_L68P_5 (io), AC16 IO_L45N_5/VREF_5 (io), AC17 IO_L43N_5 (io), AC18 IO_L37P_5 (io), AC19 IO_L07P_5 (io), AC20 IO_L02N_5/D6 (io), AC21 IO_L01P_5/CS_B (io), AD6 IO_L01P_4/INIT_B (io), AD7 VCCO_4 (power), AD8 IO_L07P_4/VREF_4 (io), AD9 IO_L37P_4 (io), AD10 VCCO_4 (power), AD12 IO_L68P_4 (io), AD13 IO_L75N_4/GCLK1S (io), AD14 IO_L75P_5/GCLK6P (io), AD15 IO_L68N_5 (io), AD17 VCCO_5 (power), AD18 IO_L37N_5 (io), AD19 IO_L07N_5/VREF_5 (io), AD20 VCCO_5 (power), AD21 IO_L01N_5/RDWR_B (io), AE8 IO_L08N_4 (io), AE13 IO_L75P_4/GCLK0P (io), AE14 IO_L75N_5/GCLK7S (io), AE19 IO_L08P_5 (io), AF8 IO_L08P_4 (io), AF19 IO_L08N_5 (io), V11 VCCO_4 (power), V12 VCCO_4 (power), V13 VCCO_4 (power), V14 VCCO_5 (power), V15 VCCO_5 (power), V16 VCCO_5 (power), W9 VCCO_4 (power), W10 VCCO_4 (power), W11 IO_L38P_4 (io), W12 IO_L69N_4 (io), W13 IO_L69P_4/VREF_4 (io), W14 IO_L69N_5/VREF_5 (io), W15 IO_L69P_5 (io), W16 IO_L38N_5 (io), W17 VCCO_5 (power), W18 VCCO_5 (power), Y8 IO_L05_4/No_Pair (io), Y9 IO_L09N_4 (io), Y10 IO_L38N_4 (io), Y11 IO_L44N_4 (io), Y12 IO_L44P_4 (io), Y13 IO_L73N_4 (io), Y14 IO_L73P_5 (io), Y15 IO_L44N_5 (io), Y16 IO_L44P_5 (io), Y17 IO_L38P_5 (io), Y18 IO_L09P_5 (io), Y19 IO_L05_5/No_Pair (io)
part D pins: A25 IO_L02N_7 (io), AA22 NC, AA23 NC, AA24 NC, AA25 NC, AA26 IO_L45P_6 (io), AB23 IO_L06P_6 (io), AB24 IO_L06N_6 (io), AB25 NC, AB26 NC, AC24 IO_L02N_6 (io), AC25 IO_L05P_6 (io), AC26 IO_L05N_6 (io), AD23 IO_L02P_6 (io), AD25 IO_L04P_6 (io), AD26 IO_L04N_6 (io), AE24 IO_L01N_6/VRP_6 (io), AE26 IO_L03P_6 (io), AF24 IO_L01P_6/VRN_6 (io), AF25 IO_L03N_6/VREF_6 (io), B26 IO_L02P_7 (io), C23 IO_L01N_7/VRP_7 (io), C25 IO_L03N_7 (io), C26 IO_L03P_7 (io), D24 IO_L01P_7/VRN_7 (io), D25 IO_L04N_7/VREF_7 (io), D26 IO_L04P_7 (io), E23 IO_L05N_7 (io), E24 IO_L05P_7 (io), E25 IO_L06N_7 (io), E26 IO_L06P_7 (io), F22 NC, F23 NC, F24 NC, F25 NC, F26 IO_L45N_7 (io), G21 IO_L43N_7 (io), G22 IO_L43P_7 (io), G23 IO_L44N_7 (io), G24 IO_L44P_7 (io), G25 VCCO_7 (power), G26 IO_L45P_7 (io), H21 IO_L46N_7/VREF_7 (io), H22 IO_L46P_7 (io), H23 IO_L47N_7 (io), H24 IO_L47P_7 (io), H25 IO_L48N_7 (io), H26 IO_L48P_7 (io), J19 VCCO_7 (power), J20 IO_L49N_7 (io), J21 IO_L49P_7 (io), J22 IO_L50N_7 (io), J23 IO_L50P_7 (io), J24 IO_L51N_7 (io), J25 IO_L51P_7 (io), J26 IO_L54N_7 (io), K19 VCCO_7 (power), K20 IO_L55N_7 (io), K21 IO_L52N_7/VREF_7 (io), K22 IO_L52P_7 (io), K23 IO_L53N_7 (io), K24 IO_L53P_7 (io), K25 VCCO_7 (power), K26 IO_L54P_7 (io), L18 VCCO_7 (power), L19 IO_L55P_7 (io), L20 IO_L56N_7 (io), L21 IO_L57N_7 (io), L22 IO_L57P_7 (io), L23 IO_L58N_7/VREF_7 (io), L24 IO_L58P_7 (io), L25 IO_L59N_7 (io), L26 IO_L59P_7 (io), M18 VCCO_7 (power), M19 IO_L60N_7 (io), M20 IO_L56P_7 (io), M21 IO_L85N_7 (io), M22 IO_L85P_7 (io), M23 IO_L86N_7 (io), M24 IO_L86P_7 (io), M25 IO_L87N_7 (io), M26 IO_L87P_7 (io), N18 VCCO_7 (power), N19 IO_L60P_7 (io), N20 IO_L88N_7/VREF_7 (io), N21 IO_L88P_7 (io), N22 IO_L89N_7 (io), N23 IO_L89P_7 (io), N24 IO_L90N_7 (io), N25 IO_L90P_7 (io), P18 VCCO_6 (power), P19 IO_L60N_6 (io), P20 IO_L88P_6 (io), P21 IO_L88N_6 (io), P22 IO_L89P_6 (io), P23 IO_L89N_6 (io), P24 IO_L90P_6 (io), P25 IO_L90N_6 (io), R18 VCCO_6 (power), R19 IO_L60P_6 (io), R20 IO_L56N_6 (io), R21 IO_L85P_6 (io), R22 IO_L85N_6 (io), R23 IO_L86P_6 (io), R24 IO_L86N_6 (io), R25 IO_L87P_6 (io), R26 IO_L87N_6/VREF_6 (io), T18 VCCO_6 (power), T19 IO_L55N_6 (io), T20 IO_L56P_6 (io), T21 IO_L57P_6 (io), T22 IO_L57N_6/VREF_6 (io), T23 IO_L58P_6 (io), T24 IO_L58N_6 (io), T25 IO_L59P_6 (io), T26 IO_L59N_6 (io), U19 VCCO_6 (power), U20 IO_L55P_6 (io), U21 IO_L52P_6 (io), U22 IO_L52N_6 (io), U23 IO_L53P_6 (io), U24 IO_L53N_6 (io), U25 VCCO_6 (power), U26 IO_L54N_6 (io), V19 VCCO_6 (power), V20 IO_L49P_6 (io), V21 IO_L49N_6 (io), V22 IO_L50P_6 (io), V23 IO_L50N_6 (io), V24 IO_L51P_6 (io), V25 IO_L51N_6/VREF_6 (io), V26 IO_L54P_6 (io), W21 IO_L46P_6 (io), W22 IO_L46N_6 (io), W23 IO_L47P_6 (io), W24 IO_L47N_6 (io), W25 IO_L48P_6 (io), W26 IO_L48N_6 (io), Y21 IO_L43P_6 (io), Y22 IO_L43N_6 (io), Y23 IO_L44P_6 (io), Y24 IO_L44N_6 (io), Y25 VCCO_6 (power), Y26 IO_L45N_6/VREF_6 (io)
part E pins: A4 RXNPAD9 (in), A5 RXPPAD9 (in), A6 TXPPAD9 (hiz), A7 TXNPAD9 (hiz), A9 RXNPAD7 (in), A10 RXPPAD7 (in), A11 TXPPAD7 (hiz), A12 TXNPAD7 (hiz), A15 RXNPAD6 (in), A16 RXPPAD6 (in), A17 TXPPAD6 (hiz), A18 TXNPAD6 (hiz), A20 RXNPAD4 (in), A21 RXPPAD4 (in), A22 TXPPAD4 (hiz), A23 TXNPAD4 (hiz), AD5 GNDA16 (power), AD11 GNDA18 (power), AD16 GNDA19 (power), AD22 GNDA21 (power), AE4 AVCCAUXRX16 (power), AE5 VTRXPAD16 (power), AE6 AVCCAUXTX16 (power), AE7 VTTXPAD16 (power), AE9 AVCCAUXRX18 (power), AE10 VTRXPAD18 (power), AE11 AVCCAUXTX18 (power), AE12 VTTXPAD18 (power), AE15 AVCCAUXRX19 (power), AE16 VTRXPAD19 (power), AE17 AVCCAUXTX19 (power), AE18 VTTXPAD19 (power), AE20 AVCCAUXRX21 (power), AE21 VTRXPAD21 (power), AE22 AVCCAUXTX21 (power), AE23 VTTXPAD21 (power), AF4 RXNPAD16 (in), AF5 RXPPAD16 (in), AF6 TXPPAD16 (hiz), AF7 TXNPAD16 (hiz), AF9 RXNPAD18 (in), AF10 RXPPAD18 (in), AF11 TXPPAD18 (hiz), AF12 TXNPAD18 (hiz), AF15 RXNPAD19 (in), AF16 RXPPAD19 (in), AF17 TXPPAD19 (hiz), AF18 TXNPAD19 (hiz), AF20 RXNPAD21 (in), AF21 RXPPAD21 (in), AF22 TXPPAD21 (hiz), AF23 TXNPAD21 (hiz), B4 AVCCAUXRX9 (power), B5 VTRXPAD9 (power), B6 AVCCAUXTX9 (power), B7 VTTXPAD9 (power), B9 AVCCAUXRX7 (power), B10 VTRXPAD7 (power), B11 AVCCAUXTX7 (power), B12 VTTXPAD7 (power), B15 AVCCAUXRX6 (power), B16 VTRXPAD6 (power), B17 AVCCAUXTX6 (power), B18 VTTXPAD6 (power), B20 AVCCAUXRX4 (power), B21 VTRXPAD4 (power), B22 AVCCAUXTX4 (power), B23 VTTXPAD4 (power), C5 GNDA9 (power), C11 GNDA7 (power), C16 GNDA6 (power), C22 GNDA4 (power)
part F pins: A13 VCCAUX (power), A14 VCCAUX (power), AB6 DONE (io), AB21 M2 (in), AC5 PWRDWN_B (in), AC22 M0 (in), AE2 VCCAUX (power), AE25 VCCAUX (power), AF13 VCCAUX (power), AF14 VCCAUX (power), B2 VCCAUX (power), B25 VCCAUX (power), D5 RSVD, D22 PROG_B (in), E6 VBATT (power), E21 HSWAP_EN (in), F7 TMS (in), F20 DXP, G8 TCK (in), G19 DXN, H7 TDO (out), H8 VCCINT (power), H19 VCCINT (power), H20 TDI (in), J9 VCCINT (power), J10 VCCINT (power), J17 VCCINT (power), J18 VCCINT (power), K9 VCCINT (power), K11 VCCINT (power), K16 VCCINT (power), K18 VCCINT (power), L10 VCCINT (power), L17 VCCINT (power), N1 VCCAUX (power), N26 VCCAUX (power), P1 VCCAUX (power), P26 VCCAUX (power), T10 VCCINT (power), T17 VCCINT (power), U9 VCCINT (power), U11 VCCINT (power), U16 VCCINT (power), U18 VCCINT (power), V9 VCCINT (power), V10 VCCINT (power), V17 VCCINT (power), V18 VCCINT (power), W7 CCLK (io), W8 VCCINT (power), W19 VCCINT (power), W20 M1 (in)
part G pins: AA6 GND (power), AA21 GND (power), AB5 GND (power), AB22 GND (power), AC4 GND (power), AC23 GND (power), AD3 GND (power), AD24 GND (power), C3 GND (power), C24 GND (power), D4 GND (power), D23 GND (power), E5 GND (power), E22 GND (power), F6 GND (power), F21 GND (power), G7 GND (power), G20 GND (power), K10 GND (power), K12 GND (power), K13 GND (power), K14 GND (power), K15 GND (power), K17 GND (power), L11 GND (power), L12 GND (power), L13 GND (power), L14 GND (power), L15 GND (power), L16 GND (power), M10 GND (power), M11 GND (power), M12 GND (power), M13 GND (power), M14 GND (power), M15 GND (power), M16 GND (power), M17 GND (power), N10 GND (power), N11 GND (power), N12 GND (power), N13 GND (power), N14 GND (power), N15 GND (power), N16 GND (power), N17 GND (power), P10 GND (power), P11 GND (power), P12 GND (power), P13 GND (power), P14 GND (power), P15 GND (power), P16 GND (power), P17 GND (power), R10 GND (power), R11 GND (power), R12 GND (power), R13 GND (power), R14 GND (power), R15 GND (power), R16 GND (power), R17 GND (power), T11 GND (power), T12 GND (power), T13 GND (power), T14 GND (power), T15 GND (power), T16 GND (power), U10 GND (power), U12 GND (power), U13 GND (power), U14 GND (power), U15 GND (power), U17 GND (power), Y7 GND (power), Y20 GND (power)
part A text: BANK 0; BANK 1
part B text: BANK 2; BANK 3
part C text: BANK 4; BANK 5
part D text: BANK 6; BANK 7
part E text: TRANSCEIVER CORE

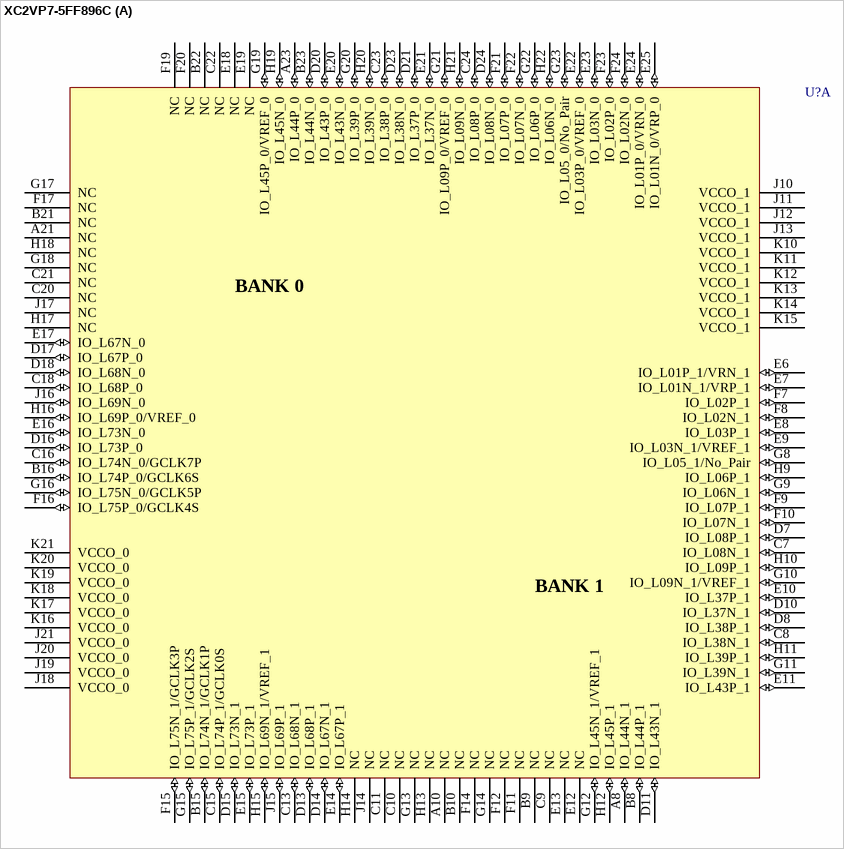
[diagram p64: symbol XC2VP7-5FF896C]

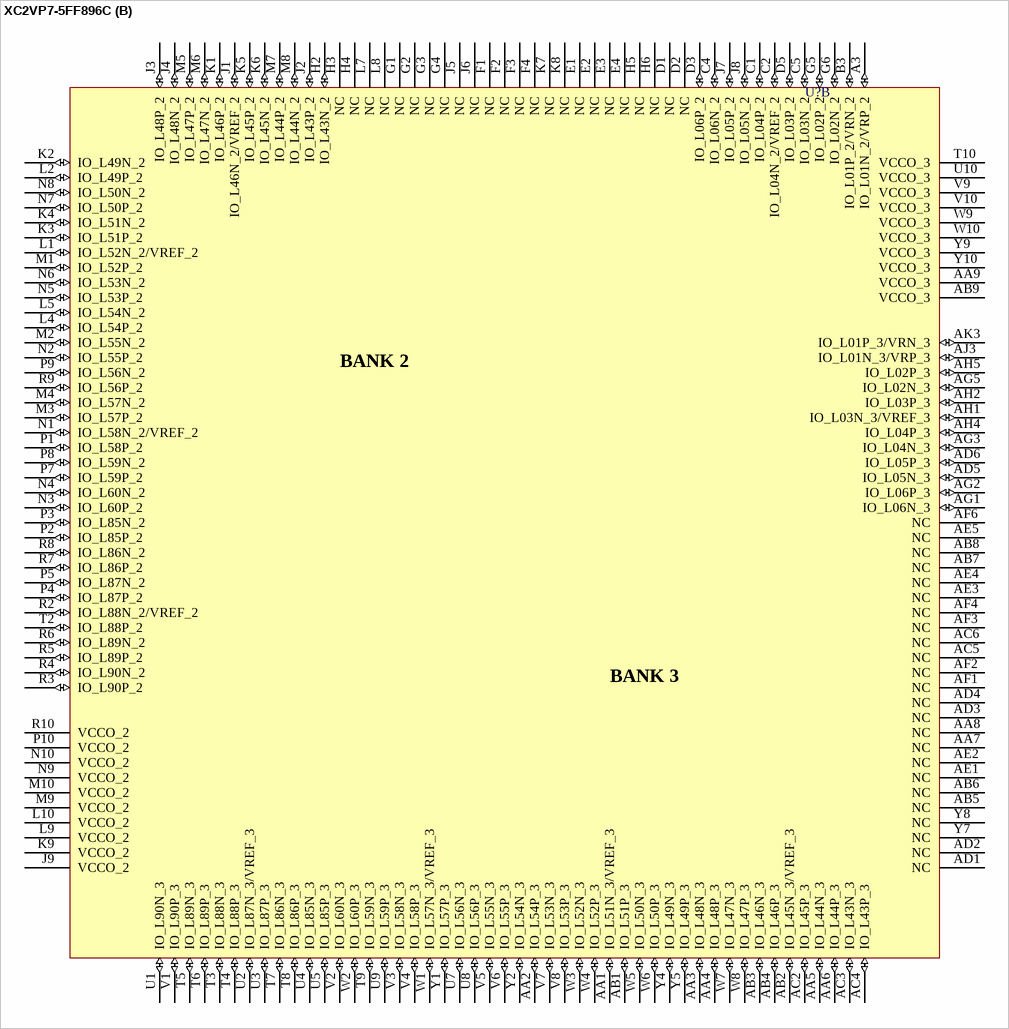
[diagram p65: symbol XC2VP7-5FF896C]

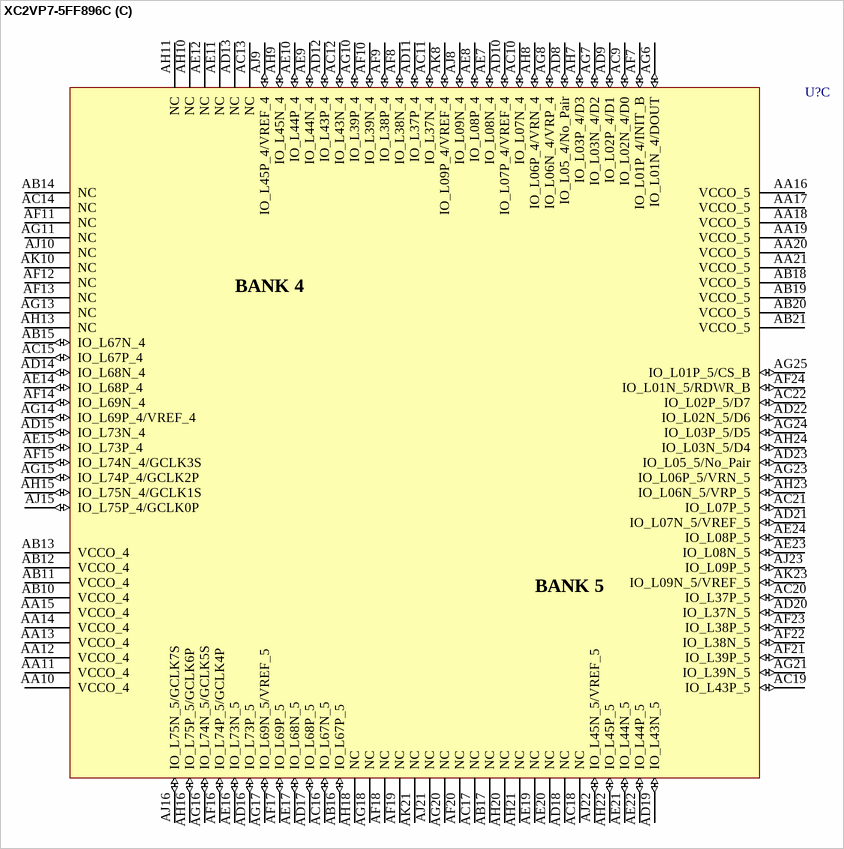
[diagram p66: symbol XC2VP7-5FF896C]

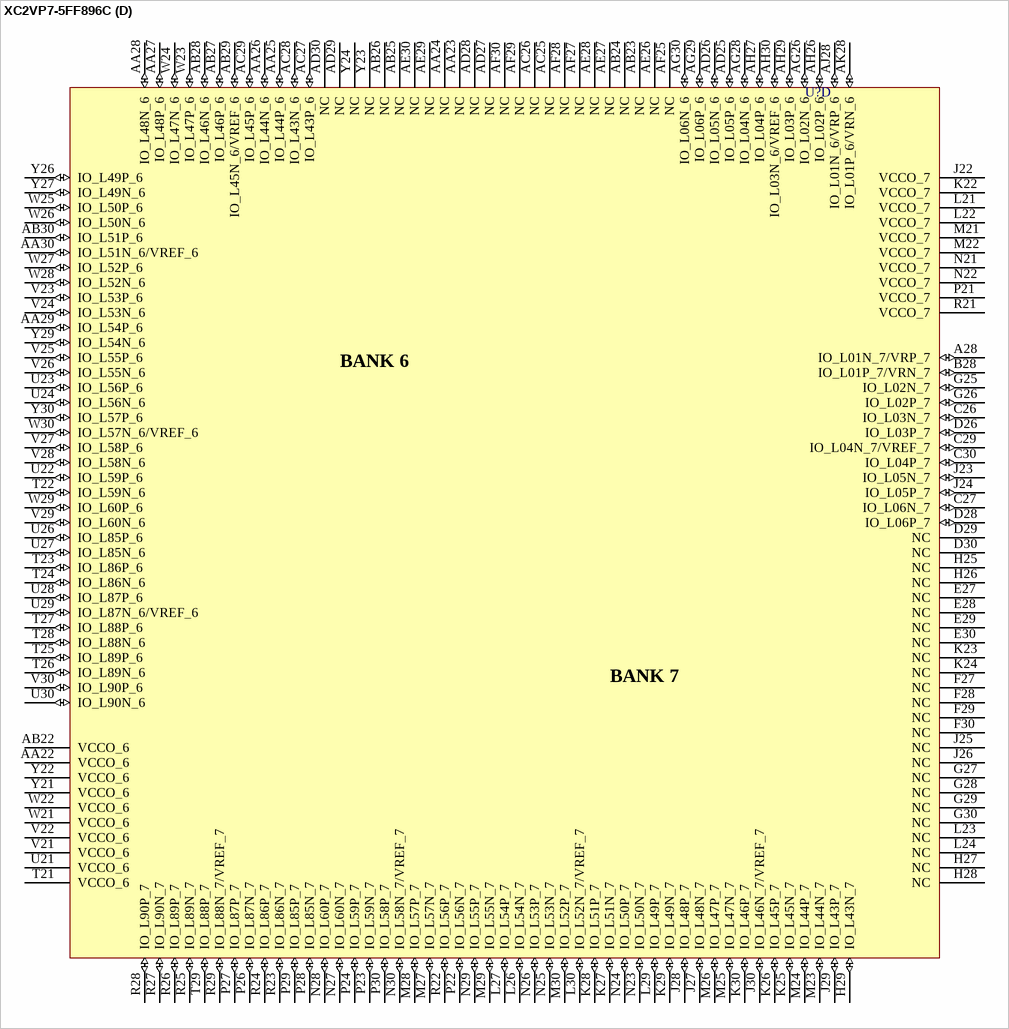
[diagram p67: symbol XC2VP7-5FF896C]

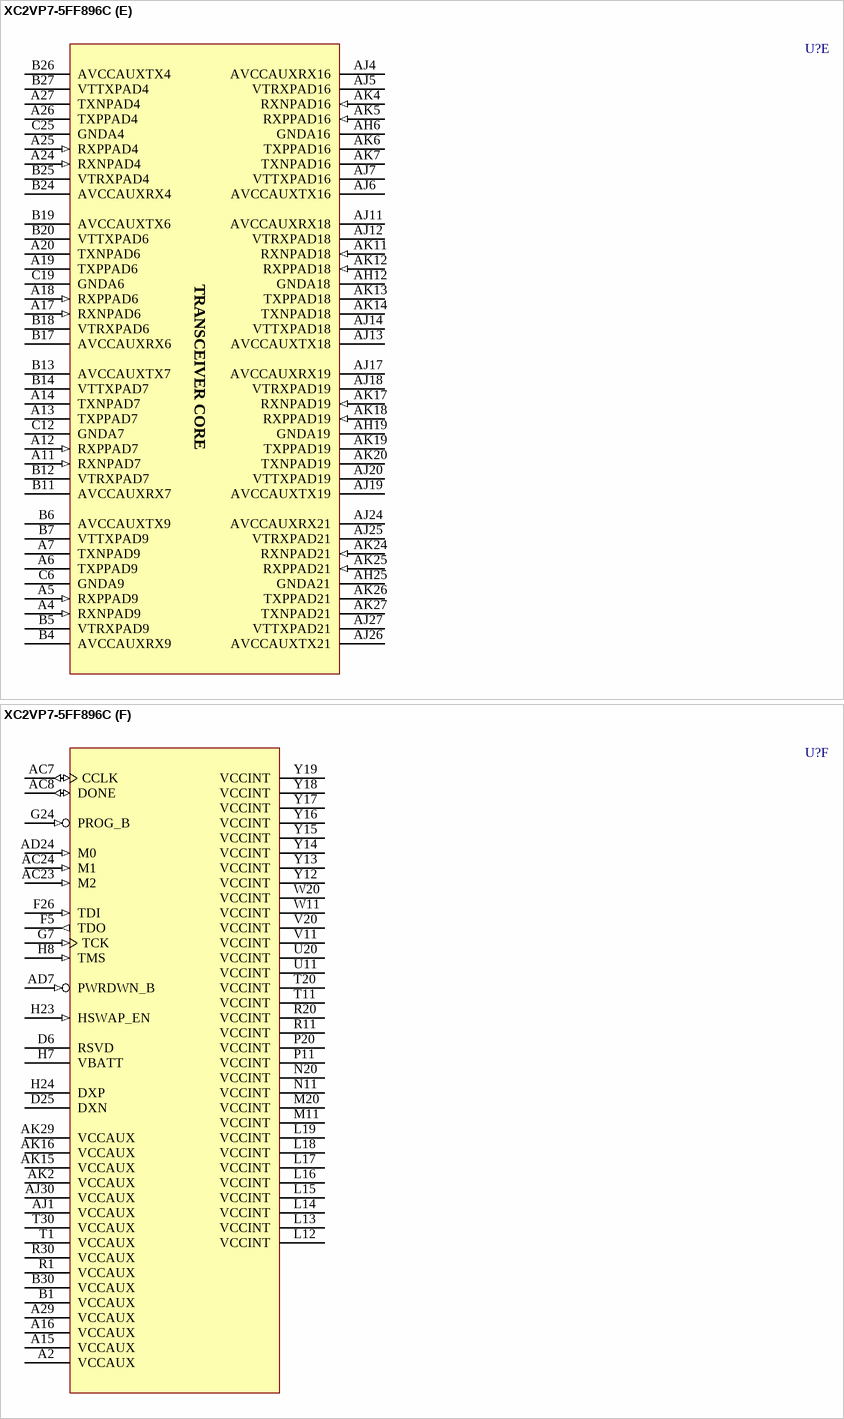
[diagram p68: symbol XC2VP7-5FF896C]

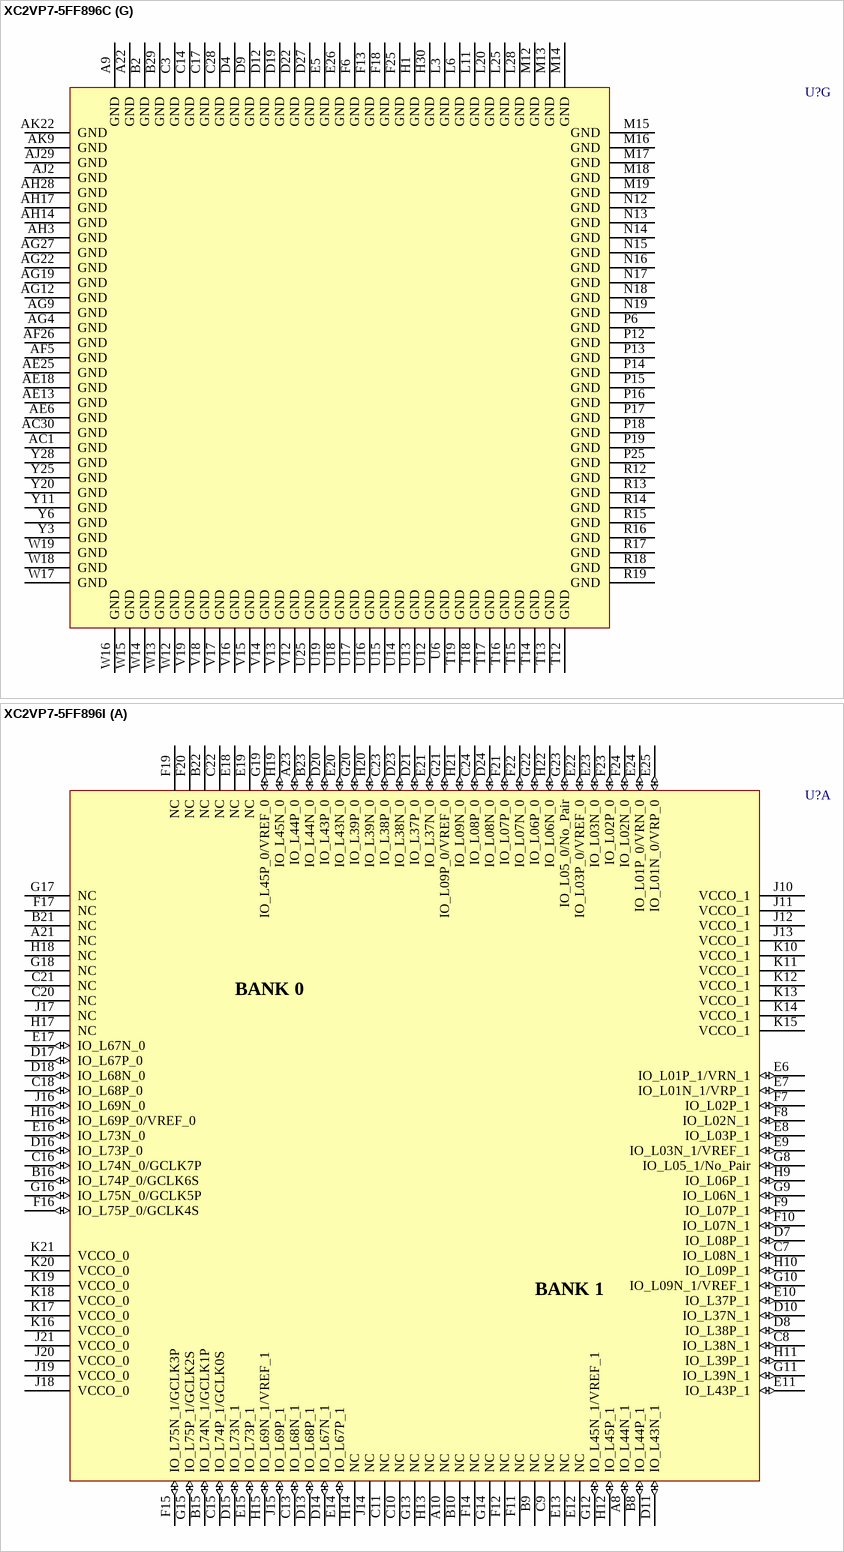
[diagram p69: symbols XC2VP7-5FF896C to XC2VP7-5FF896I]

## XC2VP7-5FF896C
designator U?
Virtex-II Pro Platform FPGA, 896-Ball FFBGA, Speed Grade 5, 396 User I/Os, Commercial Grade; ManufacturerRecommends: Solder pad diameter 0.48mm SMD; PackageDocument: ver1.0, Apr-2001; User_I/Os: 396; Published: 17-Jul-2002; LatestRevisionDate: 16-Apr-2003; LatestRevisionNote: Minor layout changes, TXN/TXP Pins changed from 'Output' to 'HiZ'.  'PROG_B' pin types changed from IO to Input.; DatasheetDocument: 22-Apr-2004; PackageReference: FF896; Publisher: Altium Limited; Code_JEDEC: MS-034-AAN-1
footprint FF896 (896-Ball Flip-Chip Fine Pitch Ball Grid Array (FF896))
3D model XC2VP7-FF896 (896-Ball Flip-Chip Fine Pitch Ball Grid Array (FF896))
signal-integrity model XC2VP7_FF896 (Virtex-II Pro)
part A pins: A8 IO_L44N_1 (io), A10 NC, A21 NC, A23 IO_L44P_0 (io), B8 IO_L44P_1 (io), B9 NC, B10 NC, B15 IO_L74N_1/GCLK1P (io), B16 IO_L74P_0/GCLK6S (io), B21 NC, B22 NC, B23 IO_L44N_0 (io), C7 IO_L08N_1 (io), C8 IO_L38N_1 (io), C9 NC, C10 NC, C11 NC, C13 IO_L68N_1 (io), C15 IO_L74P_1/GCLK0S (io), C16 IO_L74N_0/GCLK7P (io), C18 IO_L68P_0 (io), C20 NC, C21 NC, C22 NC, C23 IO_L38P_0 (io), C24 IO_L08P_0 (io), D7 IO_L08P_1 (io), D8 IO_L38P_1 (io), D10 IO_L37N_1 (io), D11 IO_L43N_1 (io), D13 IO_L68P_1 (io), D14 IO_L67N_1 (io), D15 IO_L73N_1 (io), D16 IO_L73P_0 (io), D17 IO_L67P_0 (io), D18 IO_L68N_0 (io), D20 IO_L43P_0 (io), D21 IO_L37P_0 (io), D23 IO_L38N_0 (io), D24 IO_L08N_0 (io), E6 IO_L01P_1/VRN_1 (io), E7 IO_L01N_1/VRP_1 (io), E8 IO_L03P_1 (io), E9 IO_L03N_1/VREF_1 (io), E10 IO_L37P_1 (io), E11 IO_L43P_1 (io), E12 NC, E13 NC, E14 IO_L67P_1 (io), E15 IO_L73P_1 (io), E16 IO_L73N_0 (io), E17 IO_L67N_0 (io), E18 NC, E19 NC, E20 IO_L43N_0 (io), E21 IO_L37N_0 (io), E22 IO_L03P_0/VREF_0 (io), E23 IO_L03N_0 (io), E24 IO_L01P_0/VRN_0 (io), E25 IO_L01N_0/VRP_0 (io), F7 IO_L02P_1 (io), F8 IO_L02N_1 (io), F9 IO_L07P_1 (io), F10 IO_L07N_1 (io), F11 NC, F12 NC, F14 NC, F15 IO_L75N_1/GCLK3P (io), F16 IO_L75P_0/GCLK4S (io), F17 NC, F19 NC, F20 NC, F21 IO_L07P_0 (io), F22 IO_L07N_0 (io), F23 IO_L02P_0 (io), F24 IO_L02N_0 (io), G8 IO_L05_1/No_Pair (io), G9 IO_L06N_1 (io), G10 IO_L09N_1/VREF_1 (io), G11 IO_L39N_1 (io), G12 IO_L45N_1/VREF_1 (io), G13 NC, G14 NC, G15 IO_L75P_1/GCLK2S (io), G16 IO_L75N_0/GCLK5P (io), G17 NC, G18 NC, G19 IO_L45P_0/VREF_0 (io), G20 IO_L39P_0 (io), G21 IO_L09P_0/VREF_0 (io), G22 IO_L06P_0 (io), G23 IO_L05_0/No_Pair (io), H9 IO_L06P_1 (io), H10 IO_L09P_1 (io), H11 IO_L39P_1 (io), H12 IO_L45P_1 (io), H13 NC, H14 NC, H15 IO_L69N_1/VREF_1 (io), H16 IO_L69P_0/VREF_0 (io), H17 NC, H18 NC, H19 IO_L45N_0 (io), H20 IO_L39N_0 (io), H21 IO_L09N_0 (io), H22 IO_L06N_0 (io), J10 VCCO_1 (power), J11 VCCO_1 (power), J12 VCCO_1 (power), J13 VCCO_1 (power), J14 NC, J15 IO_L69P_1 (io), J16 IO_L69N_0 (io), J17 NC, J18 VCCO_0 (power), J19 VCCO_0 (power), J20 VCCO_0 (power), J21 VCCO_0 (power), K10 VCCO_1 (power), K11 VCCO_1 (power), K12 VCCO_1 (power), K13 VCCO_1 (power), K14 VCCO_1 (power), K15 VCCO_1 (power), K16 VCCO_0 (power), K17 VCCO_0 (power), K18 VCCO_0 (power), K19 VCCO_0 (power), K20 VCCO_0 (power), K21 VCCO_0 (power)
part B pins: A3 IO_L01N_2/VRP_2 (io), AA1 IO_L51N_3/VREF_3 (io), AA2 IO_L54P_3 (io), AA3 IO_L48N_3 (io), AA4 IO_L48P_3 (io), AA5 IO_L44N_3 (io), AA6 IO_L44P_3 (io), AA7 NC, AA8 NC, AA9 VCCO_3 (power), AB1 IO_L51P_3 (io), AB2 IO_L45N_3/VREF_3 (io), AB3 IO_L46N_3 (io), AB4 IO_L46P_3 (io), AB5 NC, AB6 NC, AB7 NC, AB8 NC, AB9 VCCO_3 (power), AC2 IO_L45P_3 (io), AC3 IO_L43N_3 (io), AC4 IO_L43P_3 (io), AC5 NC, AC6 NC, AD1 NC, AD2 NC, AD3 NC, AD4 NC, AD5 IO_L05N_3 (io), AD6 IO_L05P_3 (io), AE1 NC, AE2 NC, AE3 NC, AE4 NC, AE5 NC, AF1 NC, AF2 NC, AF3 NC, AF4 NC, AF6 NC, AG1 IO_L06N_3 (io), AG2 IO_L06P_3 (io), AG3 IO_L04N_3 (io), AG5 IO_L02N_3 (io), AH1 IO_L03N_3/VREF_3 (io), AH2 IO_L03P_3 (io), AH4 IO_L04P_3 (io), AH5 IO_L02P_3 (io), AJ3 IO_L01N_3/VRP_3 (io), AK3 IO_L01P_3/VRN_3 (io), B3 IO_L01P_2/VRN_2 (io), C1 IO_L04P_2 (io), C2 IO_L04N_2/VREF_2 (io), C4 IO_L06N_2 (io), C5 IO_L03N_2 (io), D1 NC, D2 NC, D3 IO_L06P_2 (io), D5 IO_L03P_2 (io), E1 NC, E2 NC, E3 NC, E4 NC, F1 NC, F2 NC, F3 NC, F4 NC, G1 NC, G2 NC, G3 NC, G4 NC, G5 IO_L02P_2 (io), G6 IO_L02N_2 (io), H2 IO_L43N_2 (io), H3 NC, H4 NC, H5 NC, H6 NC, J1 IO_L46N_2/VREF_2 (io), J2 IO_L43P_2 (io), J3 IO_L48P_2 (io), J4 IO_L48N_2 (io), J5 NC, J6 NC, J7 IO_L05P_2 (io), J8 IO_L05N_2 (io), J9 VCCO_2 (power), K1 IO_L46P_2 (io), K2 IO_L49N_2 (io), K3 IO_L51P_2 (io), K4 IO_L51N_2 (io), K5 IO_L45P_2 (io), K6 IO_L45N_2 (io), K7 NC, K8 NC, K9 VCCO_2 (power), L1 IO_L52N_2/VREF_2 (io), L2 IO_L49P_2 (io), L4 IO_L54P_2 (io), L5 IO_L54N_2 (io), L7 NC, L8 NC, L9 VCCO_2 (power), L10 VCCO_2 (power), M1 IO_L52P_2 (io), M2 IO_L55N_2 (io), M3 IO_L57P_2 (io), M4 IO_L57N_2 (io), M5 IO_L47P_2 (io), M6 IO_L47N_2 (io), M7 IO_L44P_2 (io), M8 IO_L44N_2 (io), M9 VCCO_2 (power), M10 VCCO_2 (power), N1 IO_L58N_2/VREF_2 (io), N2 IO_L55P_2 (io), N3 IO_L60P_2 (io), N4 IO_L60N_2 (io), N5 IO_L53P_2 (io), N6 IO_L53N_2 (io), N7 IO_L50P_2 (io), N8 IO_L50N_2 (io), N9 VCCO_2 (power), N10 VCCO_2 (power), P1 IO_L58P_2 (io), P2 IO_L85P_2 (io), P3 IO_L85N_2 (io), P4 IO_L87P_2 (io), P5 IO_L87N_2 (io), P7 IO_L59P_2 (io), P8 IO_L59N_2 (io), P9 IO_L56N_2 (io), P10 VCCO_2 (power), R2 IO_L88N_2/VREF_2 (io), R3 IO_L90P_2 (io), R4 IO_L90N_2 (io), R5 IO_L89P_2 (io), R6 IO_L89N_2 (io), R7 IO_L86P_2 (io), R8 IO_L86N_2 (io), R9 IO_L56P_2 (io), R10 VCCO_2 (power), T2 IO_L88P_2 (io), T3 IO_L88N_3 (io), T4 IO_L88P_3 (io), T5 IO_L89N_3 (io), T6 IO_L89P_3 (io), T7 IO_L86N_3 (io), T8 IO_L86P_3 (io), T9 IO_L59N_3 (io), T10 VCCO_3 (power), U1 IO_L90N_3 (io), U2 IO_L87N_3/VREF_3 (io), U3 IO_L87P_3 (io), U4 IO_L85N_3 (io), U5 IO_L85P_3 (io), U7 IO_L56N_3 (io), U8 IO_L56P_3 (io), U9 IO_L59P_3 (io), U10 VCCO_3 (power), V1 IO_L90P_3 (io), V2 IO_L60N_3 (io), V3 IO_L58N_3 (io), V4 IO_L58P_3 (io), V5 IO_L55N_3 (io), V6 IO_L55P_3 (io), V7 IO_L53N_3 (io), V8 IO_L53P_3 (io), V9 VCCO_3 (power), V10 VCCO_3 (power), W1 IO_L57N_3/VREF_3 (io), W2 IO_L60P_3 (io), W3 IO_L52N_3 (io), W4 IO_L52P_3 (io), W5 IO_L50N_3 (io), W6 IO_L50P_3 (io), W7 IO_L47N_3 (io), W8 IO_L47P_3 (io), W9 VCCO_3 (power), W10 VCCO_3 (power), Y1 IO_L57P_3 (io), Y2 IO_L54N_3 (io), Y4 IO_L49N_3 (io), Y5 IO_L49P_3 (io), Y7 NC, Y8 NC, Y9 VCCO_3 (power), Y10 VCCO_3 (power)
part C pins: AA10 VCCO_4 (power), AA11 VCCO_4 (power), AA12 VCCO_4 (power), AA13 VCCO_4 (power), AA14 VCCO_4 (power), AA15 VCCO_4 (power), AA16 VCCO_5 (power), AA17 VCCO_5 (power), AA18 VCCO_5 (power), AA19 VCCO_5 (power), AA20 VCCO_5 (power), AA21 VCCO_5 (power), AB10 VCCO_4 (power), AB11 VCCO_4 (power), AB12 VCCO_4 (power), AB13 VCCO_4 (power), AB14 NC, AB15 IO_L67N_4 (io), AB16 IO_L67P_5 (io), AB17 NC, AB18 VCCO_5 (power), AB19 VCCO_5 (power), AB20 VCCO_5 (power), AB21 VCCO_5 (power), AC9 IO_L02N_4/D0 (io), AC10 IO_L07N_4 (io), AC11 IO_L37N_4 (io), AC12 IO_L43N_4 (io), AC13 NC, AC14 NC, AC15 IO_L67P_4 (io), AC16 IO_L67N_5 (io), AC17 NC, AC18 NC, AC19 IO_L43P_5 (io), AC20 IO_L37P_5 (io), AC21 IO_L07P_5 (io), AC22 IO_L02P_5/D7 (io), AD8 IO_L05_4/No_Pair (io), AD9 IO_L02P_4/D1 (io), AD10 IO_L07P_4/VREF_4 (io), AD11 IO_L37P_4 (io), AD12 IO_L43P_4 (io), AD13 NC, AD14 IO_L68N_4 (io), AD15 IO_L73N_4 (io), AD16 IO_L73P_5 (io), AD17 IO_L68P_5 (io), AD18 NC, AD19 IO_L43N_5 (io), AD20 IO_L37N_5 (io), AD21 IO_L07N_5/VREF_5 (io), AD22 IO_L02N_5/D6 (io), AD23 IO_L05_5/No_Pair (io), AE7 IO_L08N_4 (io), AE8 IO_L08P_4 (io), AE9 IO_L44N_4 (io), AE10 IO_L44P_4 (io), AE11 NC, AE12 NC, AE14 IO_L68P_4 (io), AE15 IO_L73P_4 (io), AE16 IO_L73N_5 (io), AE17 IO_L68N_5 (io), AE19 NC, AE20 NC, AE21 IO_L44N_5 (io), AE22 IO_L44P_5 (io), AE23 IO_L08N_5 (io), AE24 IO_L08P_5 (io), AF7 IO_L01P_4/INIT_B (io), AF8 IO_L38N_4 (io), AF9 IO_L38P_4 (io), AF10 IO_L39N_4 (io), AF11 NC, AF12 NC, AF13 NC, AF14 IO_L69N_4 (io), AF15 IO_L74N_4/GCLK3S (io), AF16 IO_L74P_5/GCLK4P (io), AF17 IO_L69P_5 (io), AF18 NC, AF19 NC, AF20 NC, AF21 IO_L39P_5 (io), AF22 IO_L38N_5 (io), AF23 IO_L38P_5 (io), AF24 IO_L01N_5/RDWR_B (io), AG6 IO_L01N_4/DOUT (io), AG7 IO_L03N_4/D2 (io), AG8 IO_L06N_4/VRP_4 (io), AG10 IO_L39P_4 (io), AG11 NC, AG13 NC, AG14 IO_L69P_4/VREF_4 (io), AG15 IO_L74P_4/GCLK2P (io), AG16 IO_L74N_5/GCLK5S (io), AG17 IO_L69N_5/VREF_5 (io), AG18 NC, AG20 NC, AG21 IO_L39N_5 (io), AG23 IO_L06P_5/VRN_5 (io), AG24 IO_L03P_5/D5 (io), AG25 IO_L01P_5/CS_B (io), AH7 IO_L03P_4/D3 (io), AH8 IO_L06P_4/VRN_4 (io), AH9 IO_L45N_4 (io), AH10 NC, AH11 NC, AH13 NC, AH15 IO_L75N_4/GCLK1S (io), AH16 IO_L75P_5/GCLK6P (io), AH18 NC, AH20 NC, AH21 NC, AH22 IO_L45P_5 (io), AH23 IO_L06N_5/VRP_5 (io), AH24 IO_L03N_5/D4 (io), AJ8 IO_L09N_4 (io), AJ9 IO_L45P_4/VREF_4 (io), AJ10 NC, AJ15 IO_L75P_4/GCLK0P (io), AJ16 IO_L75N_5/GCLK7S (io), AJ21 NC, AJ22 IO_L45N_5/VREF_5 (io), AJ23 IO_L09P_5 (io), AK8 IO_L09P_4/VREF_4 (io), AK10 NC, AK21 NC, AK23 IO_L09N_5/VREF_5 (io)
part D pins: A28 IO_L01N_7/VRP_7 (io), AA22 VCCO_6 (power), AA23 NC, AA24 NC, AA25 IO_L44P_6 (io), AA26 IO_L44N_6 (io), AA27 IO_L48P_6 (io), AA28 IO_L48N_6 (io), AA29 IO_L54P_6 (io), AA30 IO_L51N_6/VREF_6 (io), AB22 VCCO_6 (power), AB23 NC, AB24 NC, AB25 NC, AB26 NC, AB27 IO_L46P_6 (io), AB28 IO_L46N_6 (io), AB29 IO_L45N_6/VREF_6 (io), AB30 IO_L51P_6 (io), AC25 NC, AC26 NC, AC27 IO_L43P_6 (io), AC28 IO_L43N_6 (io), AC29 IO_L45P_6 (io), AD25 IO_L05P_6 (io), AD26 IO_L05N_6 (io), AD27 NC, AD28 NC, AD29 NC, AD30 NC, AE26 NC, AE27 NC, AE28 NC, AE29 NC, AE30 NC, AF25 NC, AF27 NC, AF28 NC, AF29 NC, AF30 NC, AG26 IO_L02N_6 (io), AG28 IO_L04N_6 (io), AG29 IO_L06P_6 (io), AG30 IO_L06N_6 (io), AH26 IO_L02P_6 (io), AH27 IO_L04P_6 (io), AH29 IO_L03P_6 (io), AH30 IO_L03N_6/VREF_6 (io), AJ28 IO_L01N_6/VRP_6 (io), AK28 IO_L01P_6/VRN_6 (io), B28 IO_L01P_7/VRN_7 (io), C26 IO_L03N_7 (io), C27 IO_L06N_7 (io), C29 IO_L04N_7/VREF_7 (io), C30 IO_L04P_7 (io), D26 IO_L03P_7 (io), D28 IO_L06P_7 (io), D29 NC, D30 NC, E27 NC, E28 NC, E29 NC, E30 NC, F27 NC, F28 NC, F29 NC, F30 NC, G25 IO_L02N_7 (io), G26 IO_L02P_7 (io), G27 NC, G28 NC, G29 NC, G30 NC, H25 NC, H26 NC, H27 NC, H28 NC, H29 IO_L43N_7 (io), J22 VCCO_7 (power), J23 IO_L05N_7 (io), J24 IO_L05P_7 (io), J25 NC, J26 NC, J27 IO_L48N_7 (io), J28 IO_L48P_7 (io), J29 IO_L43P_7 (io), J30 IO_L46N_7/VREF_7 (io), K22 VCCO_7 (power), K23 NC, K24 NC, K25 IO_L45N_7 (io), K26 IO_L45P_7 (io), K27 IO_L51N_7 (io), K28 IO_L51P_7 (io), K29 IO_L49N_7 (io), K30 IO_L46P_7 (io), L21 VCCO_7 (power), L22 VCCO_7 (power), L23 NC, L24 NC, L26 IO_L54N_7 (io), L27 IO_L54P_7 (io), L29 IO_L49P_7 (io), L30 IO_L52N_7/VREF_7 (io), M21 VCCO_7 (power), M22 VCCO_7 (power), M23 IO_L44N_7 (io), M24 IO_L44P_7 (io), M25 IO_L47N_7 (io), M26 IO_L47P_7 (io), M27 IO_L57N_7 (io), M28 IO_L57P_7 (io), M29 IO_L55N_7 (io), M30 IO_L52P_7 (io), N21 VCCO_7 (power), N22 VCCO_7 (power), N23 IO_L50N_7 (io), N24 IO_L50P_7 (io), N25 IO_L53N_7 (io), N26 IO_L53P_7 (io), N27 IO_L60N_7 (io), N28 IO_L60P_7 (io), N29 IO_L55P_7 (io), N30 IO_L58N_7/VREF_7 (io), P21 VCCO_7 (power), P22 IO_L56N_7 (io), P23 IO_L59N_7 (io), P24 IO_L59P_7 (io), P26 IO_L87N_7 (io), P27 IO_L87P_7 (io), P28 IO_L85N_7 (io), P29 IO_L85P_7 (io), P30 IO_L58P_7 (io), R21 VCCO_7 (power), R22 IO_L56P_7 (io), R23 IO_L86N_7 (io), R24 IO_L86P_7 (io), R25 IO_L89N_7 (io), R26 IO_L89P_7 (io), R27 IO_L90N_7 (io), R28 IO_L90P_7 (io), R29 IO_L88N_7/VREF_7 (io), T21 VCCO_6 (power), T22 IO_L59N_6 (io), T23 IO_L86P_6 (io), T24 IO_L86N_6 (io), T25 IO_L89P_6 (io), T26 IO_L89N_6 (io), T27 IO_L88P_6 (io), T28 IO_L88N_6 (io), T29 IO_L88P_7 (io), U21 VCCO_6 (power), U22 IO_L59P_6 (io), U23 IO_L56P_6 (io), U24 IO_L56N_6 (io), U26 IO_L85P_6 (io), U27 IO_L85N_6 (io), U28 IO_L87P_6 (io), U29 IO_L87N_6/VREF_6 (io), U30 IO_L90N_6 (io), V21 VCCO_6 (power), V22 VCCO_6 (power), V23 IO_L53P_6 (io), V24 IO_L53N_6 (io), V25 IO_L55P_6 (io), V26 IO_L55N_6 (io), V27 IO_L58P_6 (io), V28 IO_L58N_6 (io), V29 IO_L60N_6 (io), V30 IO_L90P_6 (io), W21 VCCO_6 (power), W22 VCCO_6 (power), W23 IO_L47P_6 (io), W24 IO_L47N_6 (io), W25 IO_L50P_6 (io), W26 IO_L50N_6 (io), W27 IO_L52P_6 (io), W28 IO_L52N_6 (io), W29 IO_L60P_6 (io), W30 IO_L57N_6/VREF_6 (io), Y21 VCCO_6 (power), Y22 VCCO_6 (power), Y23 NC, Y24 NC, Y26 IO_L49P_6 (io), Y27 IO_L49N_6 (io), Y29 IO_L54N_6 (io), Y30 IO_L57P_6 (io)
part E pins: A4 RXNPAD9 (in), A5 RXPPAD9 (in), A6 TXPPAD9 (hiz), A7 TXNPAD9 (hiz), A11 RXNPAD7 (in), A12 RXPPAD7 (in), A13 TXPPAD7 (hiz), A14 TXNPAD7 (hiz), A17 RXNPAD6 (in), A18 RXPPAD6 (in), A19 TXPPAD6 (hiz), A20 TXNPAD6 (hiz), A24 RXNPAD4 (in), A25 RXPPAD4 (in), A26 TXPPAD4 (hiz), A27 TXNPAD4 (hiz), AH6 GNDA16 (power), AH12 GNDA18 (power), AH19 GNDA19 (power), AH25 GNDA21 (power), AJ4 AVCCAUXRX16 (power), AJ5 VTRXPAD16 (power), AJ6 AVCCAUXTX16 (power), AJ7 VTTXPAD16 (power), AJ11 AVCCAUXRX18 (power), AJ12 VTRXPAD18 (power), AJ13 AVCCAUXTX18 (power), AJ14 VTTXPAD18 (power), AJ17 AVCCAUXRX19 (power), AJ18 VTRXPAD19 (power), AJ19 AVCCAUXTX19 (power), AJ20 VTTXPAD19 (power), AJ24 AVCCAUXRX21 (power), AJ25 VTRXPAD21 (power), AJ26 AVCCAUXTX21 (power), AJ27 VTTXPAD21 (power), AK4 RXNPAD16 (in), AK5 RXPPAD16 (in), AK6 TXPPAD16 (hiz), AK7 TXNPAD16 (hiz), AK11 RXNPAD18 (in), AK12 RXPPAD18 (in), AK13 TXPPAD18 (hiz), AK14 TXNPAD18 (hiz), AK17 RXNPAD19 (in), AK18 RXPPAD19 (in), AK19 TXPPAD19 (hiz), AK20 TXNPAD19 (hiz), AK24 RXNPAD21 (in), AK25 RXPPAD21 (in), AK26 TXPPAD21 (hiz), AK27 TXNPAD21 (hiz), B4 AVCCAUXRX9 (power), B5 VTRXPAD9 (power), B6 AVCCAUXTX9 (power), B7 VTTXPAD9 (power), B11 AVCCAUXRX7 (power), B12 VTRXPAD7 (power), B13 AVCCAUXTX7 (power), B14 VTTXPAD7 (power), B17 AVCCAUXRX6 (power), B18 VTRXPAD6 (power), B19 AVCCAUXTX6 (power), B20 VTTXPAD6 (power), B24 AVCCAUXRX4 (power), B25 VTRXPAD4 (power), B26 AVCCAUXTX4 (power), B27 VTTXPAD4 (power), C6 GNDA9 (power), C12 GNDA7 (power), C19 GNDA6 (power), C25 GNDA4 (power)
part F pins: A2 VCCAUX (power), A15 VCCAUX (power), A16 VCCAUX (power), A29 VCCAUX (power), AC7 CCLK (io), AC8 DONE (io), AC23 M2 (in), AC24 M1 (in), AD7 PWRDWN_B (in), AD24 M0 (in), AJ1 VCCAUX (power), AJ30 VCCAUX (power), AK2 VCCAUX (power), AK15 VCCAUX (power), AK16 VCCAUX (power), AK29 VCCAUX (power), B1 VCCAUX (power), B30 VCCAUX (power), D6 RSVD, D25 DXN, F5 TDO (out), F26 TDI (in), G7 TCK (in), G24 PROG_B (in), H7 VBATT (power), H8 TMS (in), H23 HSWAP_EN (in), H24 DXP, L12 VCCINT (power), L13 VCCINT (power), L14 VCCINT (power), L15 VCCINT (power), L16 VCCINT (power), L17 VCCINT (power), L18 VCCINT (power), L19 VCCINT (power), M11 VCCINT (power), M20 VCCINT (power), N11 VCCINT (power), N20 VCCINT (power), P11 VCCINT (power), P20 VCCINT (power), R1 VCCAUX (power), R11 VCCINT (power), R20 VCCINT (power), R30 VCCAUX (power), T1 VCCAUX (power), T11 VCCINT (power), T20 VCCINT (power), T30 VCCAUX (power), U11 VCCINT (power), U20 VCCINT (power), V11 VCCINT (power), V20 VCCINT (power), W11 VCCINT (power), W20 VCCINT (power), Y12 VCCINT (power), Y13 VCCINT (power), Y14 VCCINT (power), Y15 VCCINT (power), Y16 VCCINT (power), Y17 VCCINT (power), Y18 VCCINT (power), Y19 VCCINT (power)
part G pins: A9 GND (power), A22 GND (power), AC1 GND (power), AC30 GND (power), AE6 GND (power), AE13 GND (power), AE18 GND (power), AE25 GND (power), AF5 GND (power), AF26 GND (power), AG4 GND (power), AG9 GND (power), AG12 GND (power), AG19 GND (power), AG22 GND (power), AG27 GND (power), AH3 GND (power), AH14 GND (power), AH17 GND (power), AH28 GND (power), AJ2 GND (power), AJ29 GND (power), AK9 GND (power), AK22 GND (power), B2 GND (power), B29 GND (power), C3 GND (power), C14 GND (power), C17 GND (power), C28 GND (power), D4 GND (power), D9 GND (power), D12 GND (power), D19 GND (power), D22 GND (power), D27 GND (power), E5 GND (power), E26 GND (power), F6 GND (power), F13 GND (power), F18 GND (power), F25 GND (power), H1 GND (power), H30 GND (power), L3 GND (power), L6 GND (power), L11 GND (power), L20 GND (power), L25 GND (power), L28 GND (power), M12 GND (power), M13 GND (power), M14 GND (power), M15 GND (power), M16 GND (power), M17 GND (power), M18 GND (power), M19 GND (power), N12 GND (power), N13 GND (power), N14 GND (power), N15 GND (power), N16 GND (power), N17 GND (power), N18 GND (power), N19 GND (power), P6 GND (power), P12 GND (power), P13 GND (power), P14 GND (power), P15 GND (power), P16 GND (power), P17 GND (power), P18 GND (power), P19 GND (power), P25 GND (power), R12 GND (power), R13 GND (power), R14 GND (power), R15 GND (power), R16 GND (power), R17 GND (power), R18 GND (power), R19 GND (power), T12 GND (power), T13 GND (power), T14 GND (power), T15 GND (power), T16 GND (power), T17 GND (power), T18 GND (power), T19 GND (power), U6 GND (power), U12 GND (power), U13 GND (power), U14 GND (power), U15 GND (power), U16 GND (power), U17 GND (power), U18 GND (power), U19 GND (power), U25 GND (power), V12 GND (power), V13 GND (power), V14 GND (power), V15 GND (power), V16 GND (power), V17 GND (power), V18 GND (power), V19 GND (power), W12 GND (power), W13 GND (power), W14 GND (power), W15 GND (power), W16 GND (power), W17 GND (power), W18 GND (power), W19 GND (power), Y3 GND (power), Y6 GND (power), Y11 GND (power), Y20 GND (power), Y25 GND (power), Y28 GND (power)
part A text: BANK 0; BANK 1
part B text: BANK 2; BANK 3
part C text: BANK 4; BANK 5
part D text: BANK 6; BANK 7
part E text: TRANSCEIVER CORE

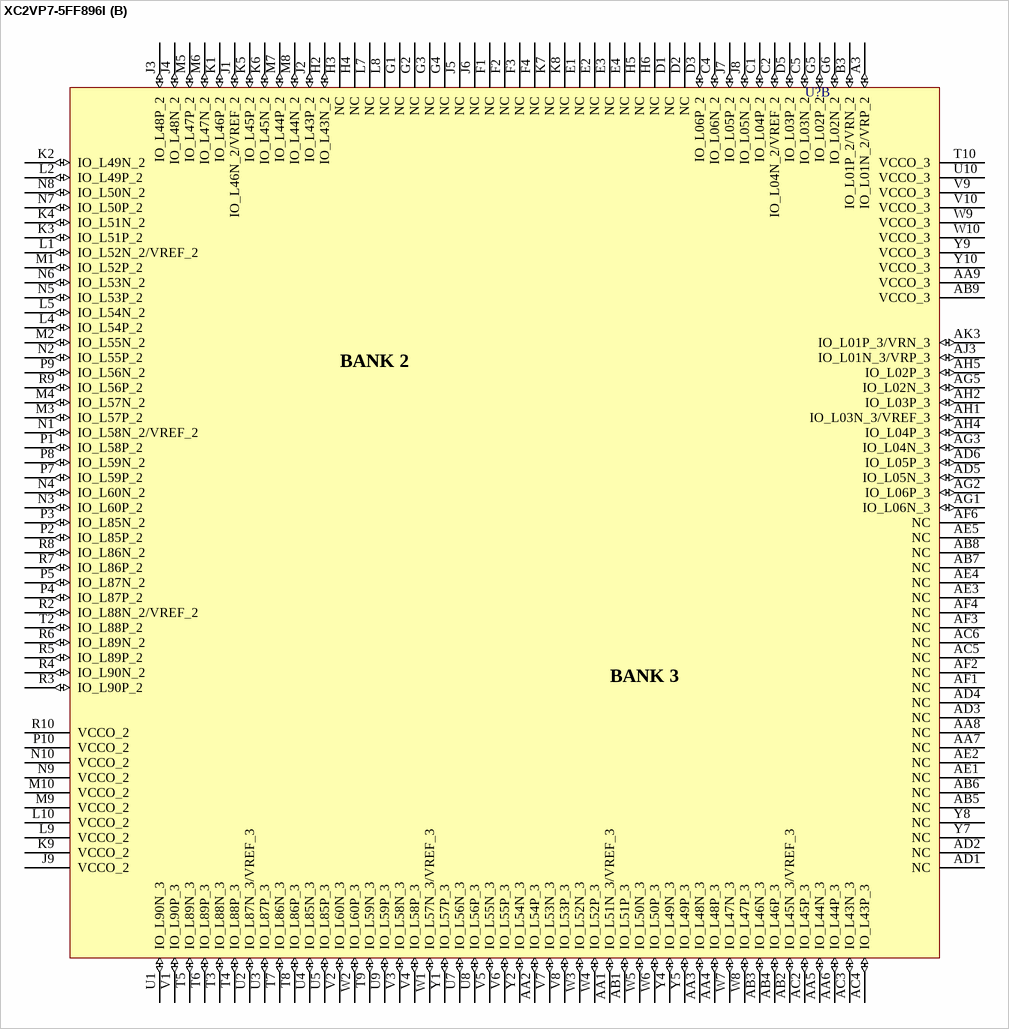
[diagram p70: symbol XC2VP7-5FF896I]

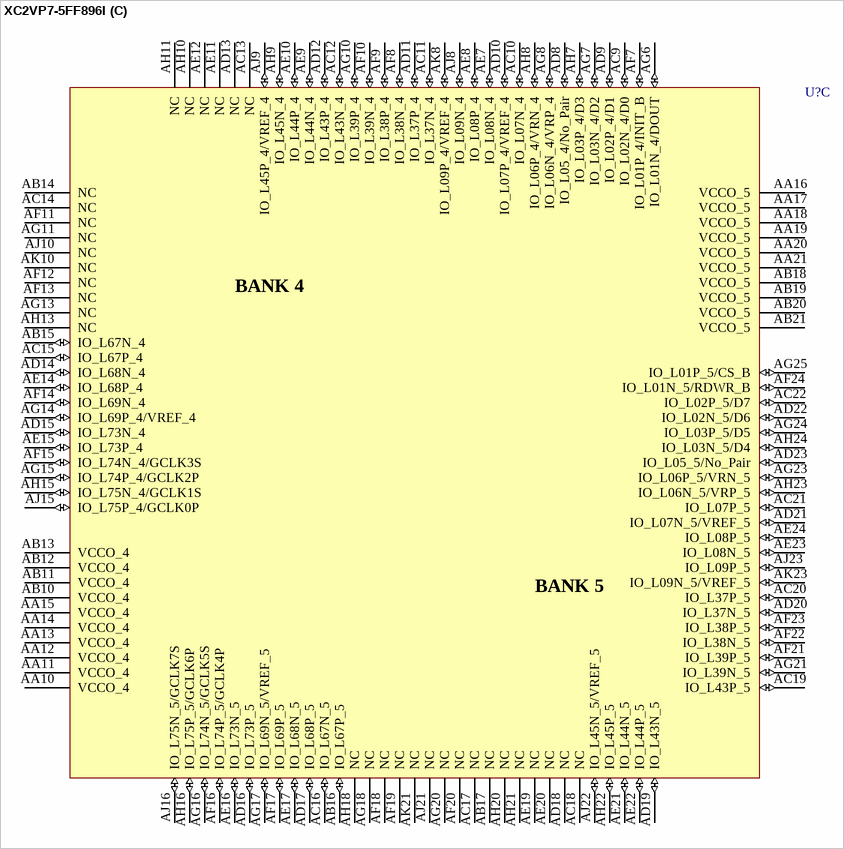
[diagram p71: symbol XC2VP7-5FF896I]

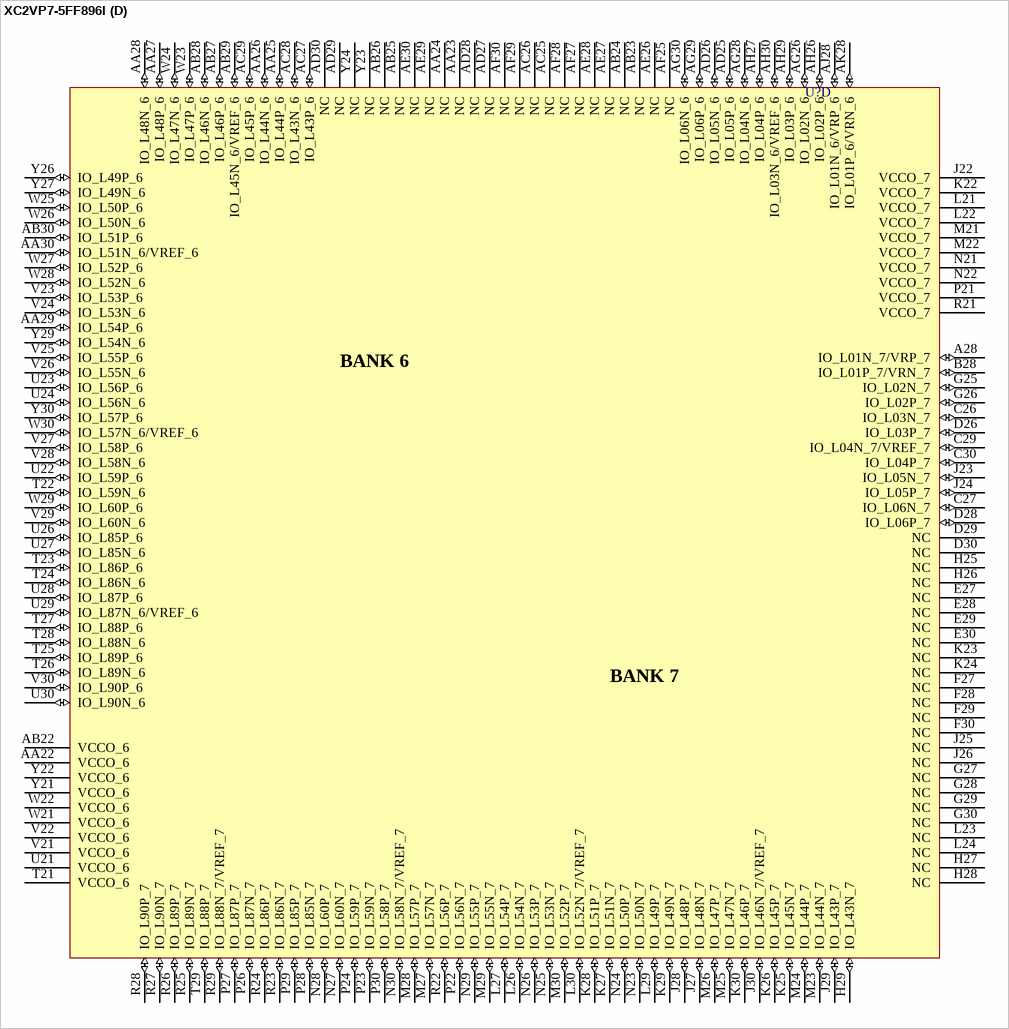
[diagram p72: symbol XC2VP7-5FF896I]

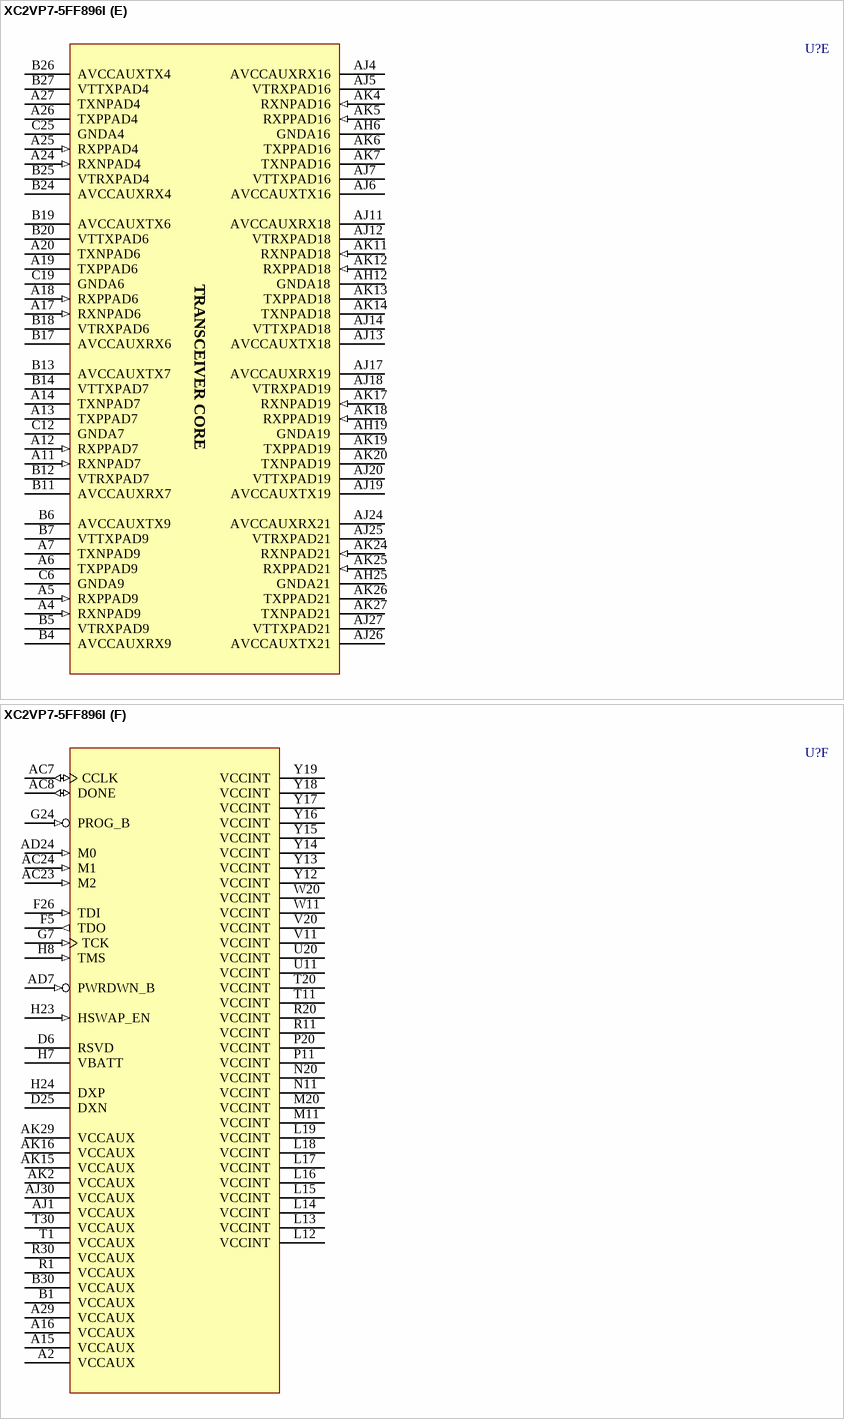
[diagram p73: symbol XC2VP7-5FF896I]

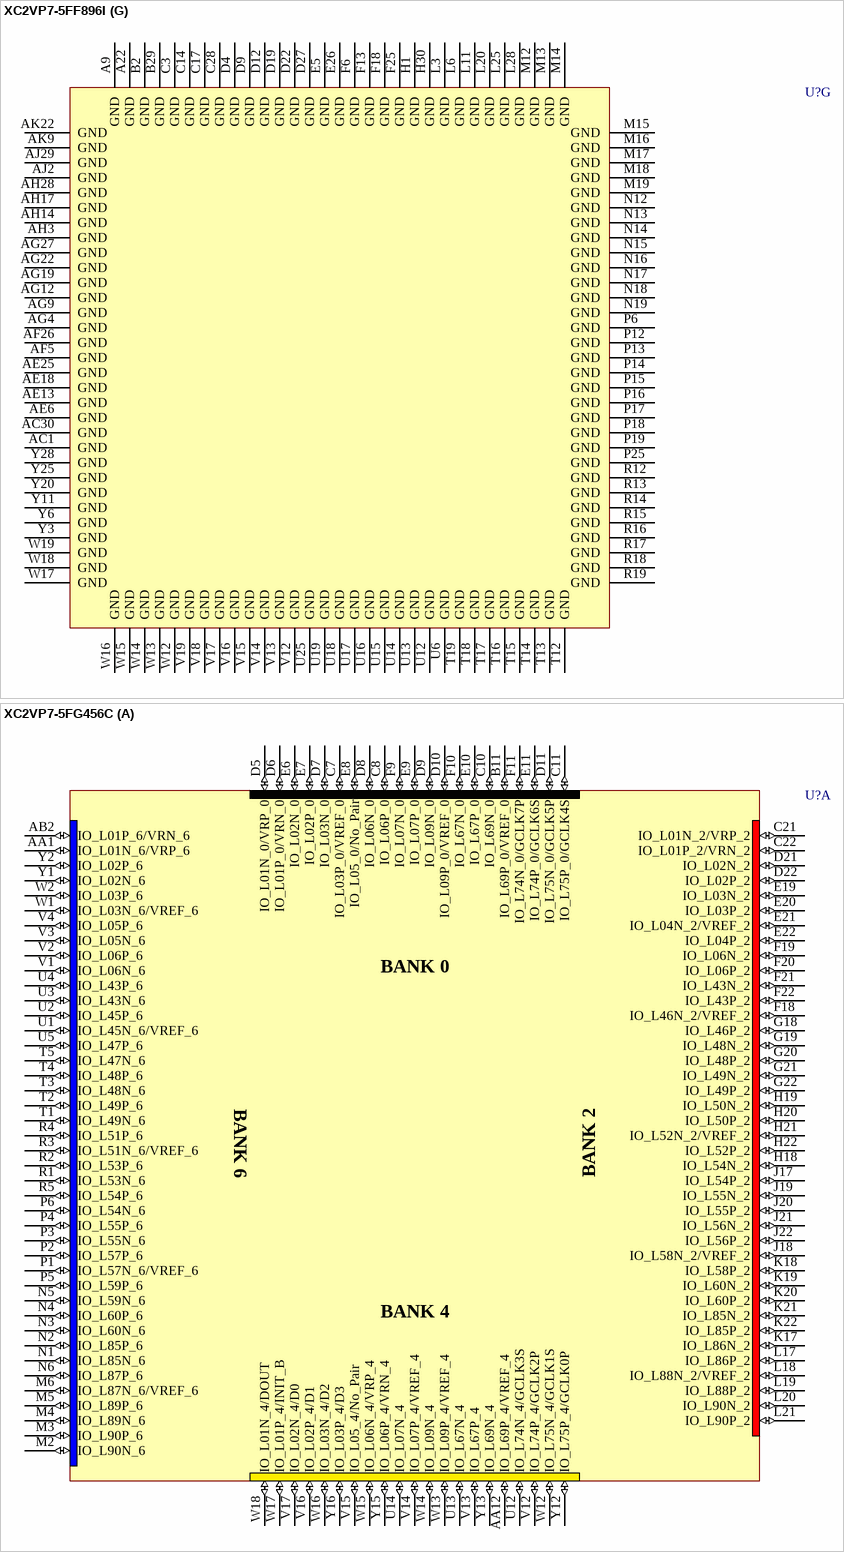
[diagram p74: symbols XC2VP7-5FF896I to XC2VP7-5FG456C]